# Altium integrated library Motorola Microcontroller 8-Bit.IntLib: 909 symbols (part 2 of 31)
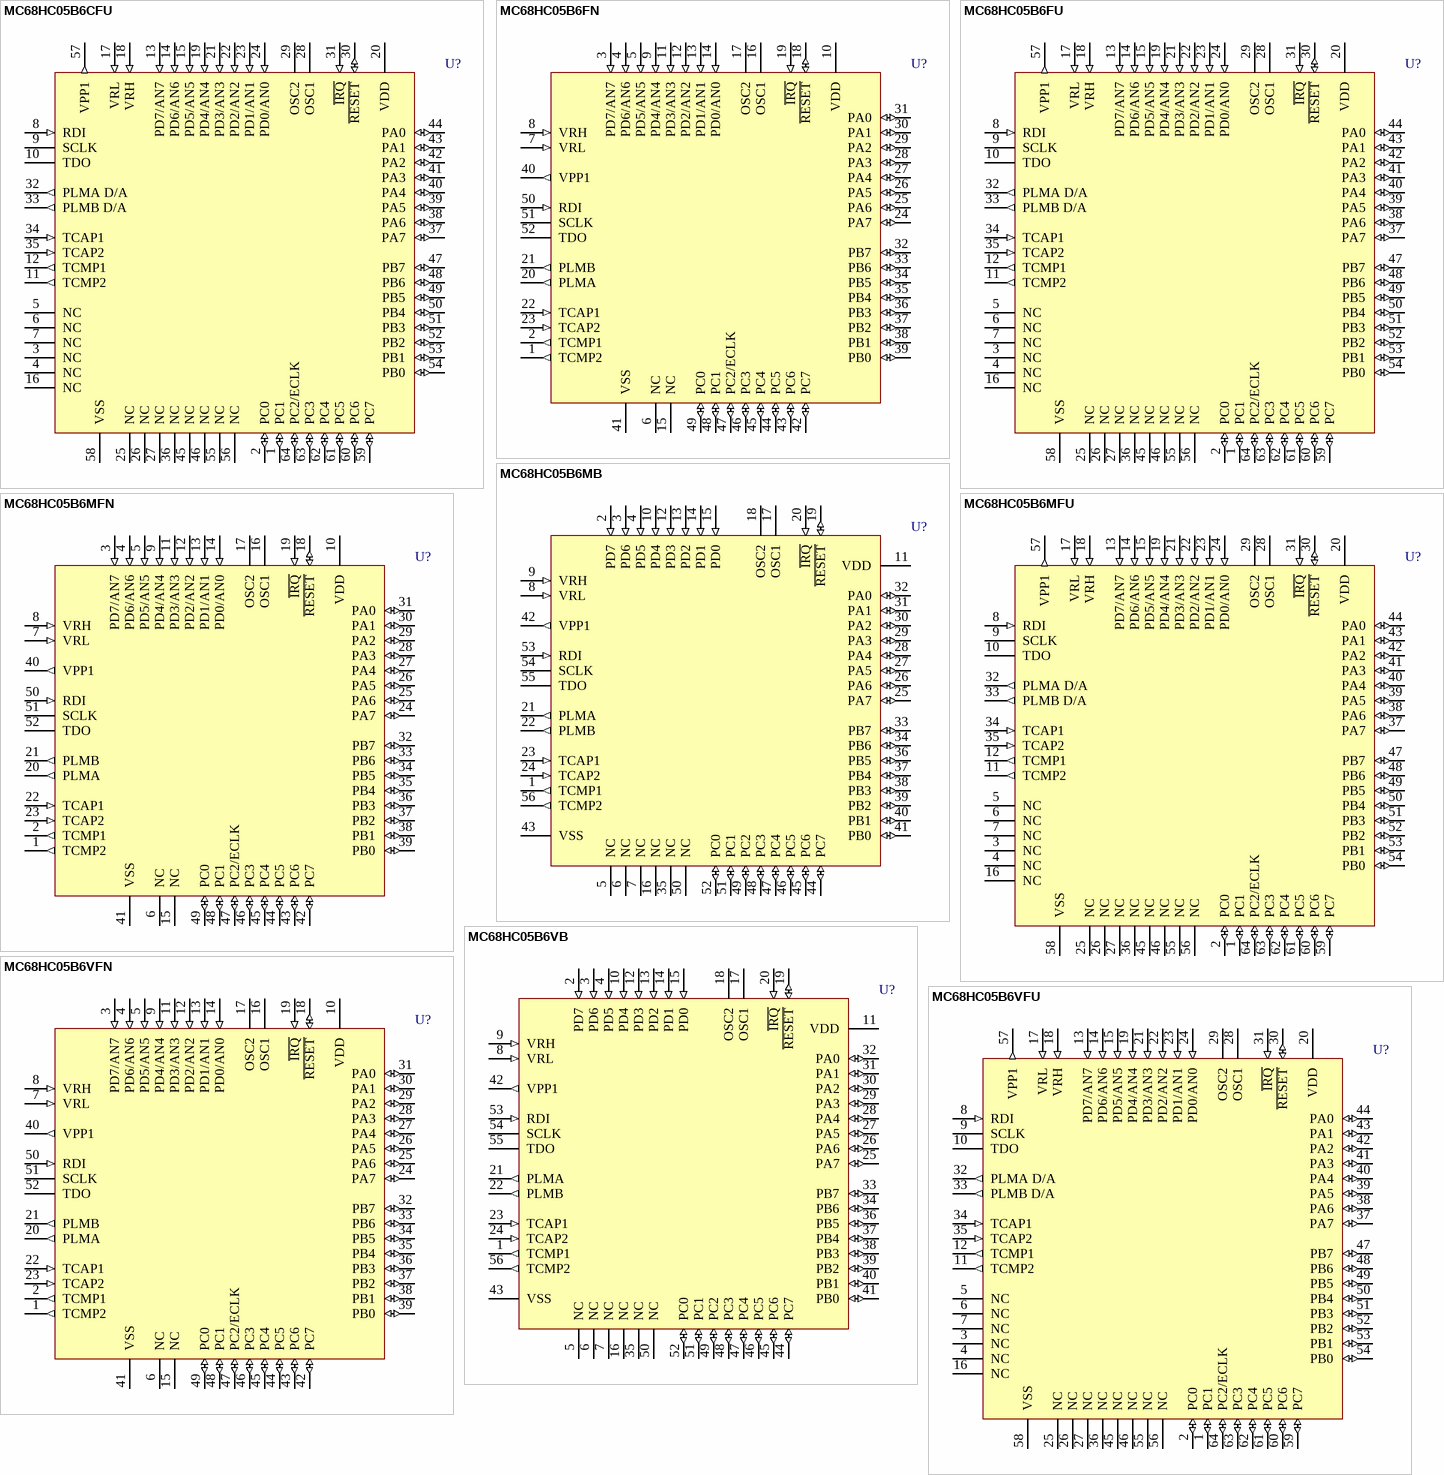
[diagram p114: symbols MC68HC05B6CFU to MC68HC05B6VFU]

## MC68HC05B6FN
designator U?
8-Bit Microcontroller; Published: 17-Jan-2003; LatestRevisionDate: 13-Apr-2006; LatestRevisionNote: IPC-7351 Footprint Added.; DatasheetVersion: Rev 4, 1999; PackageVersion: rev3, 1997; PackageReference: 778-02; Publisher: Altium Limited; PackageDescription: 52-Pin Plastic Leaded Chip Carrier 1.27 mm Pitch; ComponentLink1Description: Manufacturer Link; ComponentLink1URL: http://www.freescale.com/; ComponentLink2Description: Datasheet; ComponentLink2URL: http://www.freescale.com/files/microcontrollers/doc/data_sheet/MC68HC05B6.pdf
footprint 778-02_N (Leaded Chip Carrier, 52-Leads, Body 19x19mm, Pitch 1.27mm, IPC Medium Density)
footprint 778-02_L (Leaded Chip Carrier, 52-Leads, Body 19x19mm, Pitch 1.27mm, IPC High Density)
footprint 778-02_M (Leaded Chip Carrier, 52-Leads, Body 19x19mm, Pitch 1.27mm, IPC Low Density)
3D model MC68HC05-778-02 (52-Pin Plastic Leaded Chip Carrier 1.27 mm Pitch)
pins: 1 TCMP2 (out), 2 TCMP1 (out), 3 PD7/AN7 (in), 4 PD6/AN6 (in), 5 PD5/AN5 (in), 6 NC, 7 VRL (in), 8 VRH (in), 9 PD4/AN4 (in), 10 VDD (power), 11 PD3/AN3 (in), 12 PD2/AN2 (in), 13 PD1/AN1 (in), 14 PD0/AN0 (in), 15 NC, 16 OSC1, 17 OSC2, 18 ~{RESET} (io), 19 ~{IRQ} (in), 20 PLMA (out), 21 PLMB (out), 22 TCAP1 (in), 23 TCAP2 (in), 24 PA7 (io), 25 PA6 (io), 26 PA5 (io), 27 PA4 (io), 28 PA3 (io), 29 PA2 (io), 30 PA1 (io), 31 PA0 (io), 32 PB7 (io), 33 PB6 (io), 34 PB5 (io), 35 PB4 (io), 36 PB3 (io), 37 PB2 (io), 38 PB1 (io), 39 PB0 (io), 40 VPP1 (out), 41 VSS (power), 42 PC7 (io), 43 PC6 (io), 44 PC5 (io), 45 PC4 (io), 46 PC3 (io), 47 PC2/ECLK (io), 48 PC1 (io), 49 PC0 (io), 50 RDI (in), 51 SCLK (hiz), 52 TDO (hiz)

## MC68HC05B6FU
designator U?
8-Bit Microcontroller; Published: 17-Jan-2003; LatestRevisionDate: 13-Apr-2006; LatestRevisionNote: IPC-7351 Footprint Added.; DatasheetVersion: Rev 4, 1999; PackageVersion: rev4, Jul-2002; PackageReference: 840C; Publisher: Altium Limited; PackageDescription: 64-Pin Quad Flat Pack 0.8 mm Pitch; ComponentLink1Description: Manufacturer Link; ComponentLink1URL: http://www.freescale.com/; ComponentLink2Description: Datasheet; ComponentLink2URL: http://www.freescale.com/files/microcontrollers/doc/data_sheet/MC68HC05B6.pdf
footprint 840C_N (QFP, 64-Leads, Body 14x14mm, Pitch 0.8mm, IPC Medium Density)
footprint 840C_L (QFP, 64-Leads, Body 14x14mm, Pitch 0.8mm, IPC High Density)
footprint 840C_M (QFP, 64-Leads, Body 14x14mm, Pitch 0.8mm, IPC Low Density)
3D model MC68HC05-840C (64-Pin Quad Flat Pack 0.8 mm Pitch)
pins: 1 PC1 (io), 2 PC0 (io), 3 NC, 4 NC, 5 NC, 6 NC, 7 NC, 8 RDI (in), 9 SCLK (hiz), 10 TDO (hiz), 11 TCMP2 (out), 12 TCMP1 (out), 13 PD7/AN7 (in), 14 PD6/AN6 (in), 15 PD5/AN5 (in), 16 NC, 17 VRL (in), 18 VRH (in), 19 PD4/AN4 (in), 20 VDD (power), 21 PD3/AN3 (in), 22 PD2/AN2 (in), 23 PD1/AN1 (in), 24 PD0/AN0 (in), 25 NC, 26 NC, 27 NC, 28 OSC1, 29 OSC2, 30 ~{RESET} (io), 31 ~{IRQ} (in), 32 PLMA D/A (out), 33 PLMB D/A (out), 34 TCAP1 (in), 35 TCAP2 (in), 36 NC, 37 PA7 (io), 38 PA6 (io), 39 PA5 (io), 40 PA4 (io), 41 PA3 (io), 42 PA2 (io), 43 PA1 (io), 44 PA0 (io), 45 NC, 46 NC, 47 PB7 (io), 48 PB6 (io), 49 PB5 (io), 50 PB4 (io), 51 PB3 (io), 52 PB2 (io), 53 PB1 (io), 54 PB0 (io), 55 NC, 56 NC, 57 VPP1 (out), 58 VSS (power), 59 PC7 (io), 60 PC6 (io), 61 PC5 (io), 62 PC4 (io), 63 PC3 (io), 64 PC2/ECLK (io)

## MC68HC05B6MB
designator U?
8-Bit Microcontroller; Published: 17-Jan-2003; LatestRevisionDate: 06-Jun-2005; LatestRevisionNote: Stylized 3D Model Added.; DatasheetVersion: Rev 4, 1999; PackageVersion: rev4, 1999; PackageReference: 859-01; Publisher: Altium Limited; PackageDescription: DIP; 56 Leads; Row Spacing 15.24 mm; Pitch 1.778 mm; ComponentLink1Description: Manufacturer Link; ComponentLink1URL: http://www.freescale.com/; ComponentLink2Description: Datasheet; ComponentLink2URL: http://www.freescale.com/files/microcontrollers/doc/data_sheet/MC68HC05B6.pdf
footprint 859-01 (DIP; 56 Leads; Row Spacing 15.24 mm; Pitch 1.778 mm)
3D model 859-01 (DIP; 56 Leads; Row Spacing 15.24 mm; Pitch 1.778 mm)
pins: 1 TCMP1 (out), 2 PD7 (in), 3 PD6 (in), 4 PD5 (in), 5 NC, 6 NC, 7 NC, 8 VRL (in), 9 VRH (in), 10 PD4 (in), 11 VDD (power), 12 PD3 (in), 13 PD2 (in), 14 PD1 (in), 15 PD0 (in), 16 NC, 17 OSC1, 18 OSC2, 19 ~{RESET} (io), 20 ~{IRQ} (in), 21 PLMA (out), 22 PLMB (out), 23 TCAP1 (in), 24 TCAP2 (in), 25 PA7 (io), 26 PA6 (io), 27 PA5 (io), 28 PA4 (io), 29 PA3 (io), 30 PA2 (io), 31 PA1 (io), 32 PA0 (io), 33 PB7 (io), 34 PB6 (io), 35 NC, 36 PB5 (io), 37 PB4 (io), 38 PB3 (io), 39 PB2 (io), 40 PB1 (io), 41 PB0 (io), 42 VPP1 (out), 43 VSS (power), 44 PC7 (io), 45 PC6 (io), 46 PC5 (io), 47 PC4 (io), 48 PC3 (io), 49 PC2 (io), 50 NC, 51 PC1 (io), 52 PC0 (io), 53 RDI (in), 54 SCLK (hiz), 55 TDO (hiz), 56 TCMP2 (out)

## MC68HC05B6MFN
designator U?
8-Bit Microcontroller; Published: 17-Jan-2003; LatestRevisionDate: 13-Apr-2006; LatestRevisionNote: IPC-7351 Footprint Added.; DatasheetVersion: Rev 4, 1999; PackageVersion: rev3, 1997; PackageReference: 778-02; Publisher: Altium Limited; PackageDescription: 52-Pin Plastic Leaded Chip Carrier 1.27 mm Pitch; ComponentLink1Description: Manufacturer Link; ComponentLink1URL: http://www.freescale.com/; ComponentLink2Description: Datasheet; ComponentLink2URL: http://www.freescale.com/files/microcontrollers/doc/data_sheet/MC68HC05B6.pdf
footprint 778-02_N (Leaded Chip Carrier, 52-Leads, Body 19x19mm, Pitch 1.27mm, IPC Medium Density)
footprint 778-02_L (Leaded Chip Carrier, 52-Leads, Body 19x19mm, Pitch 1.27mm, IPC High Density)
footprint 778-02_M (Leaded Chip Carrier, 52-Leads, Body 19x19mm, Pitch 1.27mm, IPC Low Density)
3D model MC68HC05-778-02 (52-Pin Plastic Leaded Chip Carrier 1.27 mm Pitch)
pins: 1 TCMP2 (out), 2 TCMP1 (out), 3 PD7/AN7 (in), 4 PD6/AN6 (in), 5 PD5/AN5 (in), 6 NC, 7 VRL (in), 8 VRH (in), 9 PD4/AN4 (in), 10 VDD (power), 11 PD3/AN3 (in), 12 PD2/AN2 (in), 13 PD1/AN1 (in), 14 PD0/AN0 (in), 15 NC, 16 OSC1, 17 OSC2, 18 ~{RESET} (io), 19 ~{IRQ} (in), 20 PLMA (out), 21 PLMB (out), 22 TCAP1 (in), 23 TCAP2 (in), 24 PA7 (io), 25 PA6 (io), 26 PA5 (io), 27 PA4 (io), 28 PA3 (io), 29 PA2 (io), 30 PA1 (io), 31 PA0 (io), 32 PB7 (io), 33 PB6 (io), 34 PB5 (io), 35 PB4 (io), 36 PB3 (io), 37 PB2 (io), 38 PB1 (io), 39 PB0 (io), 40 VPP1 (out), 41 VSS (power), 42 PC7 (io), 43 PC6 (io), 44 PC5 (io), 45 PC4 (io), 46 PC3 (io), 47 PC2/ECLK (io), 48 PC1 (io), 49 PC0 (io), 50 RDI (in), 51 SCLK (hiz), 52 TDO (hiz)

## MC68HC05B6MFU
designator U?
8-Bit Microcontroller; Published: 17-Jan-2003; LatestRevisionDate: 13-Apr-2006; LatestRevisionNote: IPC-7351 Footprint Added.; DatasheetVersion: Rev 4, 1999; PackageVersion: rev4, Jul-2002; PackageReference: 840C; Publisher: Altium Limited; PackageDescription: 64-Pin Quad Flat Pack 0.8 mm Pitch; ComponentLink1Description: Manufacturer Link; ComponentLink1URL: http://www.freescale.com/; ComponentLink2Description: Datasheet; ComponentLink2URL: http://www.freescale.com/files/microcontrollers/doc/data_sheet/MC68HC05B6.pdf
footprint 840C_N (QFP, 64-Leads, Body 14x14mm, Pitch 0.8mm, IPC Medium Density)
footprint 840C_L (QFP, 64-Leads, Body 14x14mm, Pitch 0.8mm, IPC High Density)
footprint 840C_M (QFP, 64-Leads, Body 14x14mm, Pitch 0.8mm, IPC Low Density)
3D model MC68HC05-840C (64-Pin Quad Flat Pack 0.8 mm Pitch)
pins: 1 PC1 (io), 2 PC0 (io), 3 NC, 4 NC, 5 NC, 6 NC, 7 NC, 8 RDI (in), 9 SCLK (hiz), 10 TDO (hiz), 11 TCMP2 (out), 12 TCMP1 (out), 13 PD7/AN7 (in), 14 PD6/AN6 (in), 15 PD5/AN5 (in), 16 NC, 17 VRL (in), 18 VRH (in), 19 PD4/AN4 (in), 20 VDD (power), 21 PD3/AN3 (in), 22 PD2/AN2 (in), 23 PD1/AN1 (in), 24 PD0/AN0 (in), 25 NC, 26 NC, 27 NC, 28 OSC1, 29 OSC2, 30 ~{RESET} (io), 31 ~{IRQ} (in), 32 PLMA D/A (out), 33 PLMB D/A (out), 34 TCAP1 (in), 35 TCAP2 (in), 36 NC, 37 PA7 (io), 38 PA6 (io), 39 PA5 (io), 40 PA4 (io), 41 PA3 (io), 42 PA2 (io), 43 PA1 (io), 44 PA0 (io), 45 NC, 46 NC, 47 PB7 (io), 48 PB6 (io), 49 PB5 (io), 50 PB4 (io), 51 PB3 (io), 52 PB2 (io), 53 PB1 (io), 54 PB0 (io), 55 NC, 56 NC, 57 VPP1 (out), 58 VSS (power), 59 PC7 (io), 60 PC6 (io), 61 PC5 (io), 62 PC4 (io), 63 PC3 (io), 64 PC2/ECLK (io)

## MC68HC05B6VB
designator U?
8-Bit Microcontroller; Published: 17-Jan-2003; LatestRevisionDate: 06-Jun-2005; LatestRevisionNote: Stylized 3D Model Added.; DatasheetVersion: Rev 4, 1999; PackageVersion: rev4, 1999; PackageReference: 859-01; Publisher: Altium Limited; PackageDescription: DIP; 56 Leads; Row Spacing 15.24 mm; Pitch 1.778 mm; ComponentLink1Description: Manufacturer Link; ComponentLink1URL: http://www.freescale.com/; ComponentLink2Description: Datasheet; ComponentLink2URL: http://www.freescale.com/files/microcontrollers/doc/data_sheet/MC68HC05B6.pdf
footprint 859-01 (DIP; 56 Leads; Row Spacing 15.24 mm; Pitch 1.778 mm)
3D model 859-01 (DIP; 56 Leads; Row Spacing 15.24 mm; Pitch 1.778 mm)
pins: 1 TCMP1 (out), 2 PD7 (in), 3 PD6 (in), 4 PD5 (in), 5 NC, 6 NC, 7 NC, 8 VRL (in), 9 VRH (in), 10 PD4 (in), 11 VDD (power), 12 PD3 (in), 13 PD2 (in), 14 PD1 (in), 15 PD0 (in), 16 NC, 17 OSC1, 18 OSC2, 19 ~{RESET} (io), 20 ~{IRQ} (in), 21 PLMA (out), 22 PLMB (out), 23 TCAP1 (in), 24 TCAP2 (in), 25 PA7 (io), 26 PA6 (io), 27 PA5 (io), 28 PA4 (io), 29 PA3 (io), 30 PA2 (io), 31 PA1 (io), 32 PA0 (io), 33 PB7 (io), 34 PB6 (io), 35 NC, 36 PB5 (io), 37 PB4 (io), 38 PB3 (io), 39 PB2 (io), 40 PB1 (io), 41 PB0 (io), 42 VPP1 (out), 43 VSS (power), 44 PC7 (io), 45 PC6 (io), 46 PC5 (io), 47 PC4 (io), 48 PC3 (io), 49 PC2 (io), 50 NC, 51 PC1 (io), 52 PC0 (io), 53 RDI (in), 54 SCLK (hiz), 55 TDO (hiz), 56 TCMP2 (out)

## MC68HC05B6VFN
designator U?
8-Bit Microcontroller; Published: 17-Jan-2003; LatestRevisionDate: 13-Apr-2006; LatestRevisionNote: IPC-7351 Footprint Added.; DatasheetVersion: Rev 4, 1999; PackageVersion: rev3, 1997; PackageReference: 778-02; Publisher: Altium Limited; PackageDescription: 52-Pin Plastic Leaded Chip Carrier 1.27 mm Pitch; ComponentLink1Description: Manufacturer Link; ComponentLink1URL: http://www.freescale.com/; ComponentLink2Description: Datasheet; ComponentLink2URL: http://www.freescale.com/files/microcontrollers/doc/data_sheet/MC68HC05B6.pdf
footprint 778-02_N (Leaded Chip Carrier, 52-Leads, Body 19x19mm, Pitch 1.27mm, IPC Medium Density)
footprint 778-02_L (Leaded Chip Carrier, 52-Leads, Body 19x19mm, Pitch 1.27mm, IPC High Density)
footprint 778-02_M (Leaded Chip Carrier, 52-Leads, Body 19x19mm, Pitch 1.27mm, IPC Low Density)
3D model MC68HC05-778-02 (52-Pin Plastic Leaded Chip Carrier 1.27 mm Pitch)
pins: 1 TCMP2 (out), 2 TCMP1 (out), 3 PD7/AN7 (in), 4 PD6/AN6 (in), 5 PD5/AN5 (in), 6 NC, 7 VRL (in), 8 VRH (in), 9 PD4/AN4 (in), 10 VDD (power), 11 PD3/AN3 (in), 12 PD2/AN2 (in), 13 PD1/AN1 (in), 14 PD0/AN0 (in), 15 NC, 16 OSC1, 17 OSC2, 18 ~{RESET} (io), 19 ~{IRQ} (in), 20 PLMA (out), 21 PLMB (out), 22 TCAP1 (in), 23 TCAP2 (in), 24 PA7 (io), 25 PA6 (io), 26 PA5 (io), 27 PA4 (io), 28 PA3 (io), 29 PA2 (io), 30 PA1 (io), 31 PA0 (io), 32 PB7 (io), 33 PB6 (io), 34 PB5 (io), 35 PB4 (io), 36 PB3 (io), 37 PB2 (io), 38 PB1 (io), 39 PB0 (io), 40 VPP1 (out), 41 VSS (power), 42 PC7 (io), 43 PC6 (io), 44 PC5 (io), 45 PC4 (io), 46 PC3 (io), 47 PC2/ECLK (io), 48 PC1 (io), 49 PC0 (io), 50 RDI (in), 51 SCLK (hiz), 52 TDO (hiz)

## MC68HC05B6VFU
designator U?
8-Bit Microcontroller; Published: 17-Jan-2003; LatestRevisionDate: 13-Apr-2006; LatestRevisionNote: IPC-7351 Footprint Added.; DatasheetVersion: Rev 4, 1999; PackageVersion: rev4, Jul-2002; PackageReference: 840C; Publisher: Altium Limited; PackageDescription: 64-Pin Quad Flat Pack 0.8 mm Pitch; ComponentLink1Description: Manufacturer Link; ComponentLink1URL: http://www.freescale.com/; ComponentLink2Description: Datasheet; ComponentLink2URL: http://www.freescale.com/files/microcontrollers/doc/data_sheet/MC68HC05B6.pdf
footprint 840C_N (QFP, 64-Leads, Body 14x14mm, Pitch 0.8mm, IPC Medium Density)
footprint 840C_L (QFP, 64-Leads, Body 14x14mm, Pitch 0.8mm, IPC High Density)
footprint 840C_M (QFP, 64-Leads, Body 14x14mm, Pitch 0.8mm, IPC Low Density)
3D model MC68HC05-840C (64-Pin Quad Flat Pack 0.8 mm Pitch)
pins: 1 PC1 (io), 2 PC0 (io), 3 NC, 4 NC, 5 NC, 6 NC, 7 NC, 8 RDI (in), 9 SCLK (hiz), 10 TDO (hiz), 11 TCMP2 (out), 12 TCMP1 (out), 13 PD7/AN7 (in), 14 PD6/AN6 (in), 15 PD5/AN5 (in), 16 NC, 17 VRL (in), 18 VRH (in), 19 PD4/AN4 (in), 20 VDD (power), 21 PD3/AN3 (in), 22 PD2/AN2 (in), 23 PD1/AN1 (in), 24 PD0/AN0 (in), 25 NC, 26 NC, 27 NC, 28 OSC1, 29 OSC2, 30 ~{RESET} (io), 31 ~{IRQ} (in), 32 PLMA D/A (out), 33 PLMB D/A (out), 34 TCAP1 (in), 35 TCAP2 (in), 36 NC, 37 PA7 (io), 38 PA6 (io), 39 PA5 (io), 40 PA4 (io), 41 PA3 (io), 42 PA2 (io), 43 PA1 (io), 44 PA0 (io), 45 NC, 46 NC, 47 PB7 (io), 48 PB6 (io), 49 PB5 (io), 50 PB4 (io), 51 PB3 (io), 52 PB2 (io), 53 PB1 (io), 54 PB0 (io), 55 NC, 56 NC, 57 VPP1 (out), 58 VSS (power), 59 PC7 (io), 60 PC6 (io), 61 PC5 (io), 62 PC4 (io), 63 PC3 (io), 64 PC2/ECLK (io)

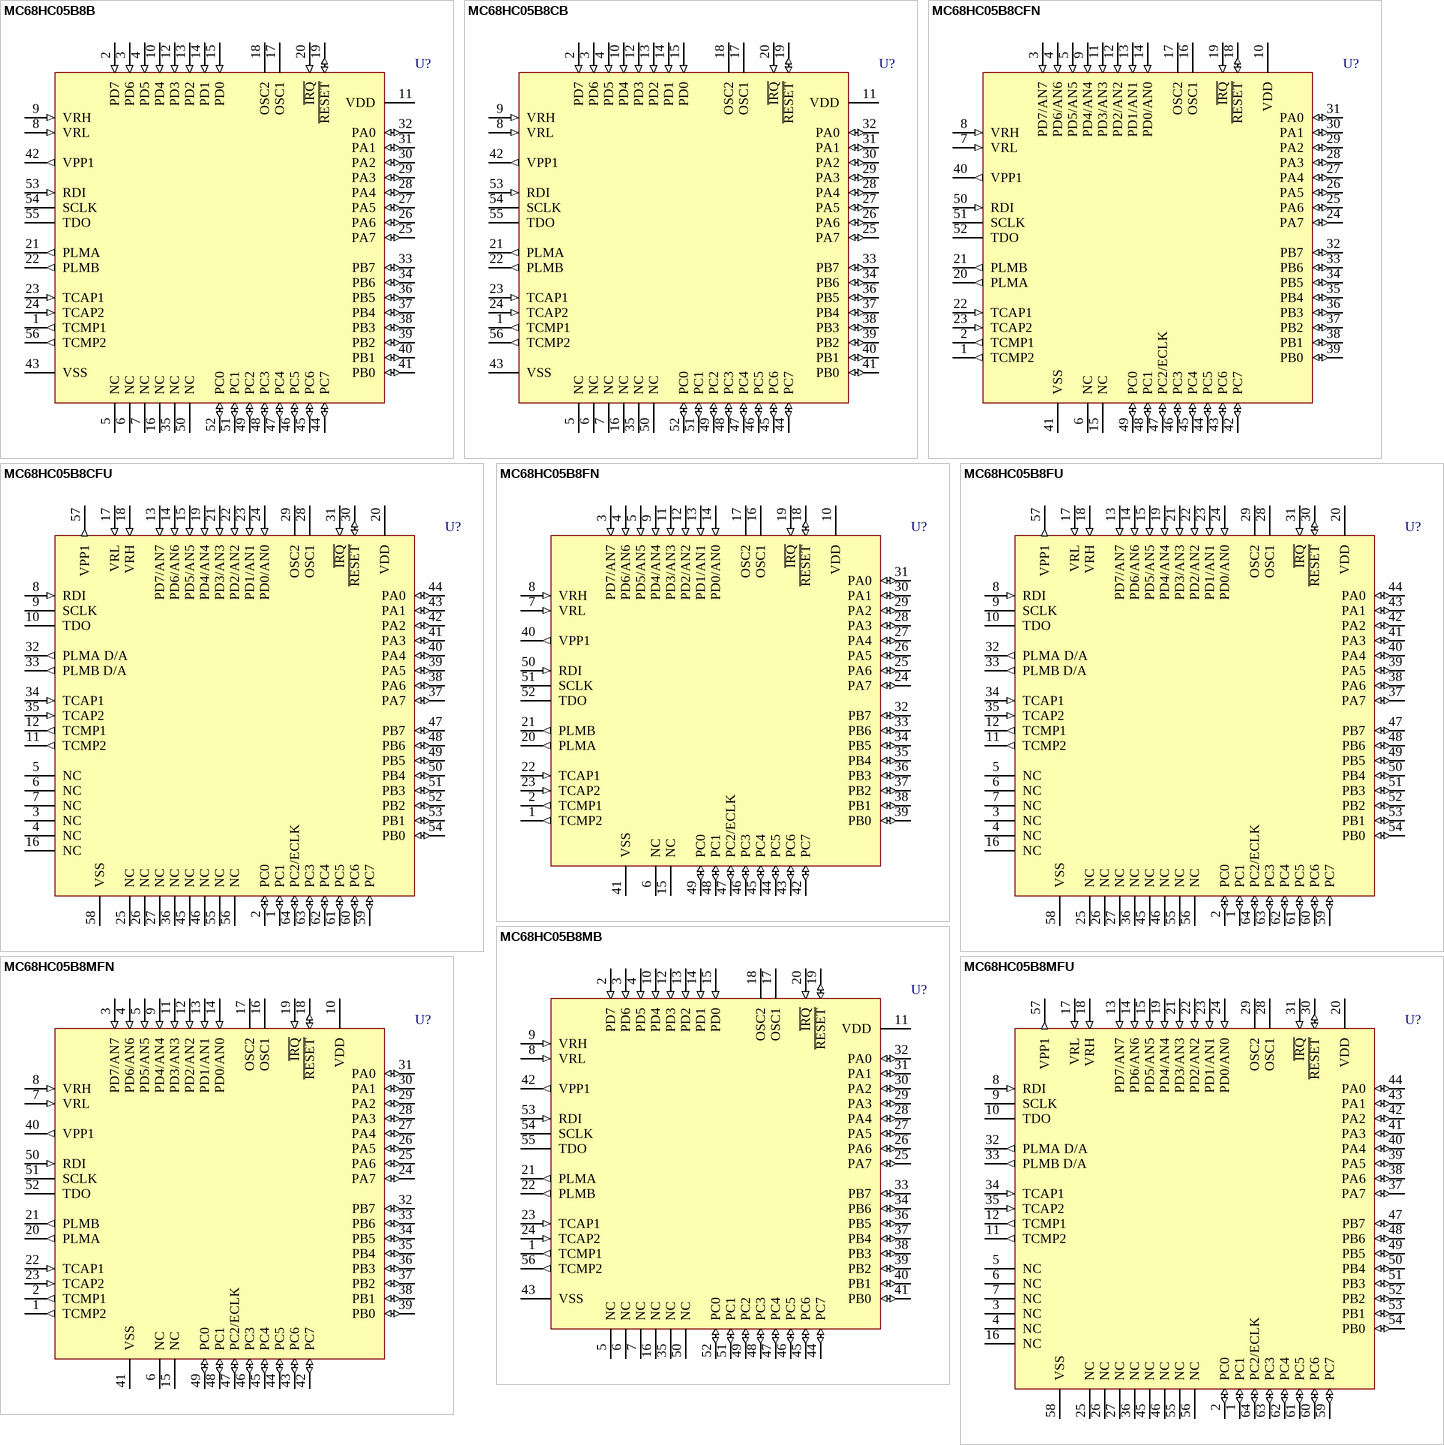
[diagram p4: symbols MC68HC05B8B to MC68HC05B8MFU]

## MC68HC05B8B
designator U?
8-Bit Microcontroller; Published: 17-Jan-2003; LatestRevisionDate: 06-Jun-2005; LatestRevisionNote: Stylized 3D Model Added.; DatasheetVersion: Rev 4, 1999; PackageVersion: rev4, 1999; PackageReference: 859-01; Publisher: Altium Limited; PackageDescription: DIP; 56 Leads; Row Spacing 15.24 mm; Pitch 1.778 mm; ComponentLink1Description: Manufacturer Link; ComponentLink1URL: http://www.freescale.com/; ComponentLink2Description: Datasheet; ComponentLink2URL: http://www.freescale.com/files/microcontrollers/doc/data_sheet/MC68HC05B6.pdf
footprint 859-01 (DIP; 56 Leads; Row Spacing 15.24 mm; Pitch 1.778 mm)
3D model 859-01 (DIP; 56 Leads; Row Spacing 15.24 mm; Pitch 1.778 mm)
pins: 1 TCMP1 (out), 2 PD7 (in), 3 PD6 (in), 4 PD5 (in), 5 NC, 6 NC, 7 NC, 8 VRL (in), 9 VRH (in), 10 PD4 (in), 11 VDD (power), 12 PD3 (in), 13 PD2 (in), 14 PD1 (in), 15 PD0 (in), 16 NC, 17 OSC1, 18 OSC2, 19 ~{RESET} (io), 20 ~{IRQ} (in), 21 PLMA (out), 22 PLMB (out), 23 TCAP1 (in), 24 TCAP2 (in), 25 PA7 (io), 26 PA6 (io), 27 PA5 (io), 28 PA4 (io), 29 PA3 (io), 30 PA2 (io), 31 PA1 (io), 32 PA0 (io), 33 PB7 (io), 34 PB6 (io), 35 NC, 36 PB5 (io), 37 PB4 (io), 38 PB3 (io), 39 PB2 (io), 40 PB1 (io), 41 PB0 (io), 42 VPP1 (out), 43 VSS (power), 44 PC7 (io), 45 PC6 (io), 46 PC5 (io), 47 PC4 (io), 48 PC3 (io), 49 PC2 (io), 50 NC, 51 PC1 (io), 52 PC0 (io), 53 RDI (in), 54 SCLK (hiz), 55 TDO (hiz), 56 TCMP2 (out)

## MC68HC05B8CB
designator U?
8-Bit Microcontroller; Published: 17-Jan-2003; LatestRevisionDate: 06-Jun-2005; LatestRevisionNote: Stylized 3D Model Added.; DatasheetVersion: Rev 4, 1999; PackageVersion: rev4, 1999; PackageReference: 859-01; Publisher: Altium Limited; PackageDescription: DIP; 56 Leads; Row Spacing 15.24 mm; Pitch 1.778 mm; ComponentLink1Description: Manufacturer Link; ComponentLink1URL: http://www.freescale.com/; ComponentLink2Description: Datasheet; ComponentLink2URL: http://www.freescale.com/files/microcontrollers/doc/data_sheet/MC68HC05B6.pdf
footprint 859-01 (DIP; 56 Leads; Row Spacing 15.24 mm; Pitch 1.778 mm)
3D model 859-01 (DIP; 56 Leads; Row Spacing 15.24 mm; Pitch 1.778 mm)
pins: 1 TCMP1 (out), 2 PD7 (in), 3 PD6 (in), 4 PD5 (in), 5 NC, 6 NC, 7 NC, 8 VRL (in), 9 VRH (in), 10 PD4 (in), 11 VDD (power), 12 PD3 (in), 13 PD2 (in), 14 PD1 (in), 15 PD0 (in), 16 NC, 17 OSC1, 18 OSC2, 19 ~{RESET} (io), 20 ~{IRQ} (in), 21 PLMA (out), 22 PLMB (out), 23 TCAP1 (in), 24 TCAP2 (in), 25 PA7 (io), 26 PA6 (io), 27 PA5 (io), 28 PA4 (io), 29 PA3 (io), 30 PA2 (io), 31 PA1 (io), 32 PA0 (io), 33 PB7 (io), 34 PB6 (io), 35 NC, 36 PB5 (io), 37 PB4 (io), 38 PB3 (io), 39 PB2 (io), 40 PB1 (io), 41 PB0 (io), 42 VPP1 (out), 43 VSS (power), 44 PC7 (io), 45 PC6 (io), 46 PC5 (io), 47 PC4 (io), 48 PC3 (io), 49 PC2 (io), 50 NC, 51 PC1 (io), 52 PC0 (io), 53 RDI (in), 54 SCLK (hiz), 55 TDO (hiz), 56 TCMP2 (out)

## MC68HC05B8CFN
designator U?
8-Bit Microcontroller; Published: 17-Jan-2003; LatestRevisionDate: 13-Apr-2006; LatestRevisionNote: IPC-7351 Footprint Added.; DatasheetVersion: Rev 4, 1999; PackageVersion: rev3, 1997; PackageReference: 778-02; Publisher: Altium Limited; PackageDescription: 52-Pin Plastic Leaded Chip Carrier 1.27 mm Pitch; ComponentLink1Description: Manufacturer Link; ComponentLink1URL: http://www.freescale.com/; ComponentLink2Description: Datasheet; ComponentLink2URL: http://www.freescale.com/files/microcontrollers/doc/data_sheet/MC68HC05B6.pdf
footprint 778-02_N (Leaded Chip Carrier, 52-Leads, Body 19x19mm, Pitch 1.27mm, IPC Medium Density)
footprint 778-02_L (Leaded Chip Carrier, 52-Leads, Body 19x19mm, Pitch 1.27mm, IPC High Density)
footprint 778-02_M (Leaded Chip Carrier, 52-Leads, Body 19x19mm, Pitch 1.27mm, IPC Low Density)
3D model MC68HC05-778-02 (52-Pin Plastic Leaded Chip Carrier 1.27 mm Pitch)
pins: 1 TCMP2 (out), 2 TCMP1 (out), 3 PD7/AN7 (in), 4 PD6/AN6 (in), 5 PD5/AN5 (in), 6 NC, 7 VRL (in), 8 VRH (in), 9 PD4/AN4 (in), 10 VDD (power), 11 PD3/AN3 (in), 12 PD2/AN2 (in), 13 PD1/AN1 (in), 14 PD0/AN0 (in), 15 NC, 16 OSC1, 17 OSC2, 18 ~{RESET} (io), 19 ~{IRQ} (in), 20 PLMA (out), 21 PLMB (out), 22 TCAP1 (in), 23 TCAP2 (in), 24 PA7 (io), 25 PA6 (io), 26 PA5 (io), 27 PA4 (io), 28 PA3 (io), 29 PA2 (io), 30 PA1 (io), 31 PA0 (io), 32 PB7 (io), 33 PB6 (io), 34 PB5 (io), 35 PB4 (io), 36 PB3 (io), 37 PB2 (io), 38 PB1 (io), 39 PB0 (io), 40 VPP1 (out), 41 VSS (power), 42 PC7 (io), 43 PC6 (io), 44 PC5 (io), 45 PC4 (io), 46 PC3 (io), 47 PC2/ECLK (io), 48 PC1 (io), 49 PC0 (io), 50 RDI (in), 51 SCLK (hiz), 52 TDO (hiz)

## MC68HC05B8CFU
designator U?
8-Bit Microcontroller; Published: 17-Jan-2003; LatestRevisionDate: 13-Apr-2006; LatestRevisionNote: IPC-7351 Footprint Added.; DatasheetVersion: Rev 4, 1999; PackageVersion: rev4, Jul-2002; PackageReference: 840C; Publisher: Altium Limited; PackageDescription: 64-Pin Quad Flat Pack 0.8 mm Pitch; ComponentLink1Description: Manufacturer Link; ComponentLink1URL: http://www.freescale.com/; ComponentLink2Description: Datasheet; ComponentLink2URL: http://www.freescale.com/files/microcontrollers/doc/data_sheet/MC68HC05B6.pdf
footprint 840C_N (QFP, 64-Leads, Body 14x14mm, Pitch 0.8mm, IPC Medium Density)
footprint 840C_L (QFP, 64-Leads, Body 14x14mm, Pitch 0.8mm, IPC High Density)
footprint 840C_M (QFP, 64-Leads, Body 14x14mm, Pitch 0.8mm, IPC Low Density)
3D model MC68HC05-840C (64-Pin Quad Flat Pack 0.8 mm Pitch)
pins: 1 PC1 (io), 2 PC0 (io), 3 NC, 4 NC, 5 NC, 6 NC, 7 NC, 8 RDI (in), 9 SCLK (hiz), 10 TDO (hiz), 11 TCMP2 (out), 12 TCMP1 (out), 13 PD7/AN7 (in), 14 PD6/AN6 (in), 15 PD5/AN5 (in), 16 NC, 17 VRL (in), 18 VRH (in), 19 PD4/AN4 (in), 20 VDD (power), 21 PD3/AN3 (in), 22 PD2/AN2 (in), 23 PD1/AN1 (in), 24 PD0/AN0 (in), 25 NC, 26 NC, 27 NC, 28 OSC1, 29 OSC2, 30 ~{RESET} (io), 31 ~{IRQ} (in), 32 PLMA D/A (out), 33 PLMB D/A (out), 34 TCAP1 (in), 35 TCAP2 (in), 36 NC, 37 PA7 (io), 38 PA6 (io), 39 PA5 (io), 40 PA4 (io), 41 PA3 (io), 42 PA2 (io), 43 PA1 (io), 44 PA0 (io), 45 NC, 46 NC, 47 PB7 (io), 48 PB6 (io), 49 PB5 (io), 50 PB4 (io), 51 PB3 (io), 52 PB2 (io), 53 PB1 (io), 54 PB0 (io), 55 NC, 56 NC, 57 VPP1 (out), 58 VSS (power), 59 PC7 (io), 60 PC6 (io), 61 PC5 (io), 62 PC4 (io), 63 PC3 (io), 64 PC2/ECLK (io)

## MC68HC05B8FN
designator U?
8-Bit Microcontroller; Published: 17-Jan-2003; LatestRevisionDate: 13-Apr-2006; LatestRevisionNote: IPC-7351 Footprint Added.; DatasheetVersion: Rev 4, 1999; PackageVersion: rev3, 1997; PackageReference: 778-02; Publisher: Altium Limited; PackageDescription: 52-Pin Plastic Leaded Chip Carrier 1.27 mm Pitch; ComponentLink1Description: Manufacturer Link; ComponentLink1URL: http://www.freescale.com/; ComponentLink2Description: Datasheet; ComponentLink2URL: http://www.freescale.com/files/microcontrollers/doc/data_sheet/MC68HC05B6.pdf
footprint 778-02_N (Leaded Chip Carrier, 52-Leads, Body 19x19mm, Pitch 1.27mm, IPC Medium Density)
footprint 778-02_L (Leaded Chip Carrier, 52-Leads, Body 19x19mm, Pitch 1.27mm, IPC High Density)
footprint 778-02_M (Leaded Chip Carrier, 52-Leads, Body 19x19mm, Pitch 1.27mm, IPC Low Density)
3D model MC68HC05-778-02 (52-Pin Plastic Leaded Chip Carrier 1.27 mm Pitch)
pins: 1 TCMP2 (out), 2 TCMP1 (out), 3 PD7/AN7 (in), 4 PD6/AN6 (in), 5 PD5/AN5 (in), 6 NC, 7 VRL (in), 8 VRH (in), 9 PD4/AN4 (in), 10 VDD (power), 11 PD3/AN3 (in), 12 PD2/AN2 (in), 13 PD1/AN1 (in), 14 PD0/AN0 (in), 15 NC, 16 OSC1, 17 OSC2, 18 ~{RESET} (io), 19 ~{IRQ} (in), 20 PLMA (out), 21 PLMB (out), 22 TCAP1 (in), 23 TCAP2 (in), 24 PA7 (io), 25 PA6 (io), 26 PA5 (io), 27 PA4 (io), 28 PA3 (io), 29 PA2 (io), 30 PA1 (io), 31 PA0 (io), 32 PB7 (io), 33 PB6 (io), 34 PB5 (io), 35 PB4 (io), 36 PB3 (io), 37 PB2 (io), 38 PB1 (io), 39 PB0 (io), 40 VPP1 (out), 41 VSS (power), 42 PC7 (io), 43 PC6 (io), 44 PC5 (io), 45 PC4 (io), 46 PC3 (io), 47 PC2/ECLK (io), 48 PC1 (io), 49 PC0 (io), 50 RDI (in), 51 SCLK (hiz), 52 TDO (hiz)

## MC68HC05B8FU
designator U?
8-Bit Microcontroller; Published: 17-Jan-2003; LatestRevisionDate: 13-Apr-2006; LatestRevisionNote: IPC-7351 Footprint Added.; DatasheetVersion: Rev 4, 1999; PackageVersion: rev4, Jul-2002; PackageReference: 840C; Publisher: Altium Limited; PackageDescription: 64-Pin Quad Flat Pack 0.8 mm Pitch; ComponentLink1Description: Manufacturer Link; ComponentLink1URL: http://www.freescale.com/; ComponentLink2Description: Datasheet; ComponentLink2URL: http://www.freescale.com/files/microcontrollers/doc/data_sheet/MC68HC05B6.pdf
footprint 840C_N (QFP, 64-Leads, Body 14x14mm, Pitch 0.8mm, IPC Medium Density)
footprint 840C_L (QFP, 64-Leads, Body 14x14mm, Pitch 0.8mm, IPC High Density)
footprint 840C_M (QFP, 64-Leads, Body 14x14mm, Pitch 0.8mm, IPC Low Density)
3D model MC68HC05-840C (64-Pin Quad Flat Pack 0.8 mm Pitch)
pins: 1 PC1 (io), 2 PC0 (io), 3 NC, 4 NC, 5 NC, 6 NC, 7 NC, 8 RDI (in), 9 SCLK (hiz), 10 TDO (hiz), 11 TCMP2 (out), 12 TCMP1 (out), 13 PD7/AN7 (in), 14 PD6/AN6 (in), 15 PD5/AN5 (in), 16 NC, 17 VRL (in), 18 VRH (in), 19 PD4/AN4 (in), 20 VDD (power), 21 PD3/AN3 (in), 22 PD2/AN2 (in), 23 PD1/AN1 (in), 24 PD0/AN0 (in), 25 NC, 26 NC, 27 NC, 28 OSC1, 29 OSC2, 30 ~{RESET} (io), 31 ~{IRQ} (in), 32 PLMA D/A (out), 33 PLMB D/A (out), 34 TCAP1 (in), 35 TCAP2 (in), 36 NC, 37 PA7 (io), 38 PA6 (io), 39 PA5 (io), 40 PA4 (io), 41 PA3 (io), 42 PA2 (io), 43 PA1 (io), 44 PA0 (io), 45 NC, 46 NC, 47 PB7 (io), 48 PB6 (io), 49 PB5 (io), 50 PB4 (io), 51 PB3 (io), 52 PB2 (io), 53 PB1 (io), 54 PB0 (io), 55 NC, 56 NC, 57 VPP1 (out), 58 VSS (power), 59 PC7 (io), 60 PC6 (io), 61 PC5 (io), 62 PC4 (io), 63 PC3 (io), 64 PC2/ECLK (io)

## MC68HC05B8MB
designator U?
8-Bit Microcontroller; Published: 17-Jan-2003; LatestRevisionDate: 06-Jun-2005; LatestRevisionNote: Stylized 3D Model Added.; DatasheetVersion: Rev 4, 1999; PackageVersion: rev4, 1999; PackageReference: 859-01; Publisher: Altium Limited; PackageDescription: DIP; 56 Leads; Row Spacing 15.24 mm; Pitch 1.778 mm; ComponentLink1Description: Manufacturer Link; ComponentLink1URL: http://www.freescale.com/; ComponentLink2Description: Datasheet; ComponentLink2URL: http://www.freescale.com/files/microcontrollers/doc/data_sheet/MC68HC05B6.pdf
footprint 859-01 (DIP; 56 Leads; Row Spacing 15.24 mm; Pitch 1.778 mm)
3D model 859-01 (DIP; 56 Leads; Row Spacing 15.24 mm; Pitch 1.778 mm)
pins: 1 TCMP1 (out), 2 PD7 (in), 3 PD6 (in), 4 PD5 (in), 5 NC, 6 NC, 7 NC, 8 VRL (in), 9 VRH (in), 10 PD4 (in), 11 VDD (power), 12 PD3 (in), 13 PD2 (in), 14 PD1 (in), 15 PD0 (in), 16 NC, 17 OSC1, 18 OSC2, 19 ~{RESET} (io), 20 ~{IRQ} (in), 21 PLMA (out), 22 PLMB (out), 23 TCAP1 (in), 24 TCAP2 (in), 25 PA7 (io), 26 PA6 (io), 27 PA5 (io), 28 PA4 (io), 29 PA3 (io), 30 PA2 (io), 31 PA1 (io), 32 PA0 (io), 33 PB7 (io), 34 PB6 (io), 35 NC, 36 PB5 (io), 37 PB4 (io), 38 PB3 (io), 39 PB2 (io), 40 PB1 (io), 41 PB0 (io), 42 VPP1 (out), 43 VSS (power), 44 PC7 (io), 45 PC6 (io), 46 PC5 (io), 47 PC4 (io), 48 PC3 (io), 49 PC2 (io), 50 NC, 51 PC1 (io), 52 PC0 (io), 53 RDI (in), 54 SCLK (hiz), 55 TDO (hiz), 56 TCMP2 (out)

## MC68HC05B8MFN
designator U?
8-Bit Microcontroller; Published: 17-Jan-2003; LatestRevisionDate: 13-Apr-2006; LatestRevisionNote: IPC-7351 Footprint Added.; DatasheetVersion: Rev 4, 1999; PackageVersion: rev3, 1997; PackageReference: 778-02; Publisher: Altium Limited; PackageDescription: 52-Pin Plastic Leaded Chip Carrier 1.27 mm Pitch; ComponentLink1Description: Manufacturer Link; ComponentLink1URL: http://www.freescale.com/; ComponentLink2Description: Datasheet; ComponentLink2URL: http://www.freescale.com/files/microcontrollers/doc/data_sheet/MC68HC05B6.pdf
footprint 778-02_N (Leaded Chip Carrier, 52-Leads, Body 19x19mm, Pitch 1.27mm, IPC Medium Density)
footprint 778-02_L (Leaded Chip Carrier, 52-Leads, Body 19x19mm, Pitch 1.27mm, IPC High Density)
footprint 778-02_M (Leaded Chip Carrier, 52-Leads, Body 19x19mm, Pitch 1.27mm, IPC Low Density)
3D model MC68HC05-778-02 (52-Pin Plastic Leaded Chip Carrier 1.27 mm Pitch)
pins: 1 TCMP2 (out), 2 TCMP1 (out), 3 PD7/AN7 (in), 4 PD6/AN6 (in), 5 PD5/AN5 (in), 6 NC, 7 VRL (in), 8 VRH (in), 9 PD4/AN4 (in), 10 VDD (power), 11 PD3/AN3 (in), 12 PD2/AN2 (in), 13 PD1/AN1 (in), 14 PD0/AN0 (in), 15 NC, 16 OSC1, 17 OSC2, 18 ~{RESET} (io), 19 ~{IRQ} (in), 20 PLMA (out), 21 PLMB (out), 22 TCAP1 (in), 23 TCAP2 (in), 24 PA7 (io), 25 PA6 (io), 26 PA5 (io), 27 PA4 (io), 28 PA3 (io), 29 PA2 (io), 30 PA1 (io), 31 PA0 (io), 32 PB7 (io), 33 PB6 (io), 34 PB5 (io), 35 PB4 (io), 36 PB3 (io), 37 PB2 (io), 38 PB1 (io), 39 PB0 (io), 40 VPP1 (out), 41 VSS (power), 42 PC7 (io), 43 PC6 (io), 44 PC5 (io), 45 PC4 (io), 46 PC3 (io), 47 PC2/ECLK (io), 48 PC1 (io), 49 PC0 (io), 50 RDI (in), 51 SCLK (hiz), 52 TDO (hiz)

## MC68HC05B8MFU
designator U?
8-Bit Microcontroller; Published: 17-Jan-2003; LatestRevisionDate: 13-Apr-2006; LatestRevisionNote: IPC-7351 Footprint Added.; DatasheetVersion: Rev 4, 1999; PackageVersion: rev4, Jul-2002; PackageReference: 840C; Publisher: Altium Limited; PackageDescription: 64-Pin Quad Flat Pack 0.8 mm Pitch; ComponentLink1Description: Manufacturer Link; ComponentLink1URL: http://www.freescale.com/; ComponentLink2Description: Datasheet; ComponentLink2URL: http://www.freescale.com/files/microcontrollers/doc/data_sheet/MC68HC05B6.pdf
footprint 840C_N (QFP, 64-Leads, Body 14x14mm, Pitch 0.8mm, IPC Medium Density)
footprint 840C_L (QFP, 64-Leads, Body 14x14mm, Pitch 0.8mm, IPC High Density)
footprint 840C_M (QFP, 64-Leads, Body 14x14mm, Pitch 0.8mm, IPC Low Density)
3D model MC68HC05-840C (64-Pin Quad Flat Pack 0.8 mm Pitch)
pins: 1 PC1 (io), 2 PC0 (io), 3 NC, 4 NC, 5 NC, 6 NC, 7 NC, 8 RDI (in), 9 SCLK (hiz), 10 TDO (hiz), 11 TCMP2 (out), 12 TCMP1 (out), 13 PD7/AN7 (in), 14 PD6/AN6 (in), 15 PD5/AN5 (in), 16 NC, 17 VRL (in), 18 VRH (in), 19 PD4/AN4 (in), 20 VDD (power), 21 PD3/AN3 (in), 22 PD2/AN2 (in), 23 PD1/AN1 (in), 24 PD0/AN0 (in), 25 NC, 26 NC, 27 NC, 28 OSC1, 29 OSC2, 30 ~{RESET} (io), 31 ~{IRQ} (in), 32 PLMA D/A (out), 33 PLMB D/A (out), 34 TCAP1 (in), 35 TCAP2 (in), 36 NC, 37 PA7 (io), 38 PA6 (io), 39 PA5 (io), 40 PA4 (io), 41 PA3 (io), 42 PA2 (io), 43 PA1 (io), 44 PA0 (io), 45 NC, 46 NC, 47 PB7 (io), 48 PB6 (io), 49 PB5 (io), 50 PB4 (io), 51 PB3 (io), 52 PB2 (io), 53 PB1 (io), 54 PB0 (io), 55 NC, 56 NC, 57 VPP1 (out), 58 VSS (power), 59 PC7 (io), 60 PC6 (io), 61 PC5 (io), 62 PC4 (io), 63 PC3 (io), 64 PC2/ECLK (io)

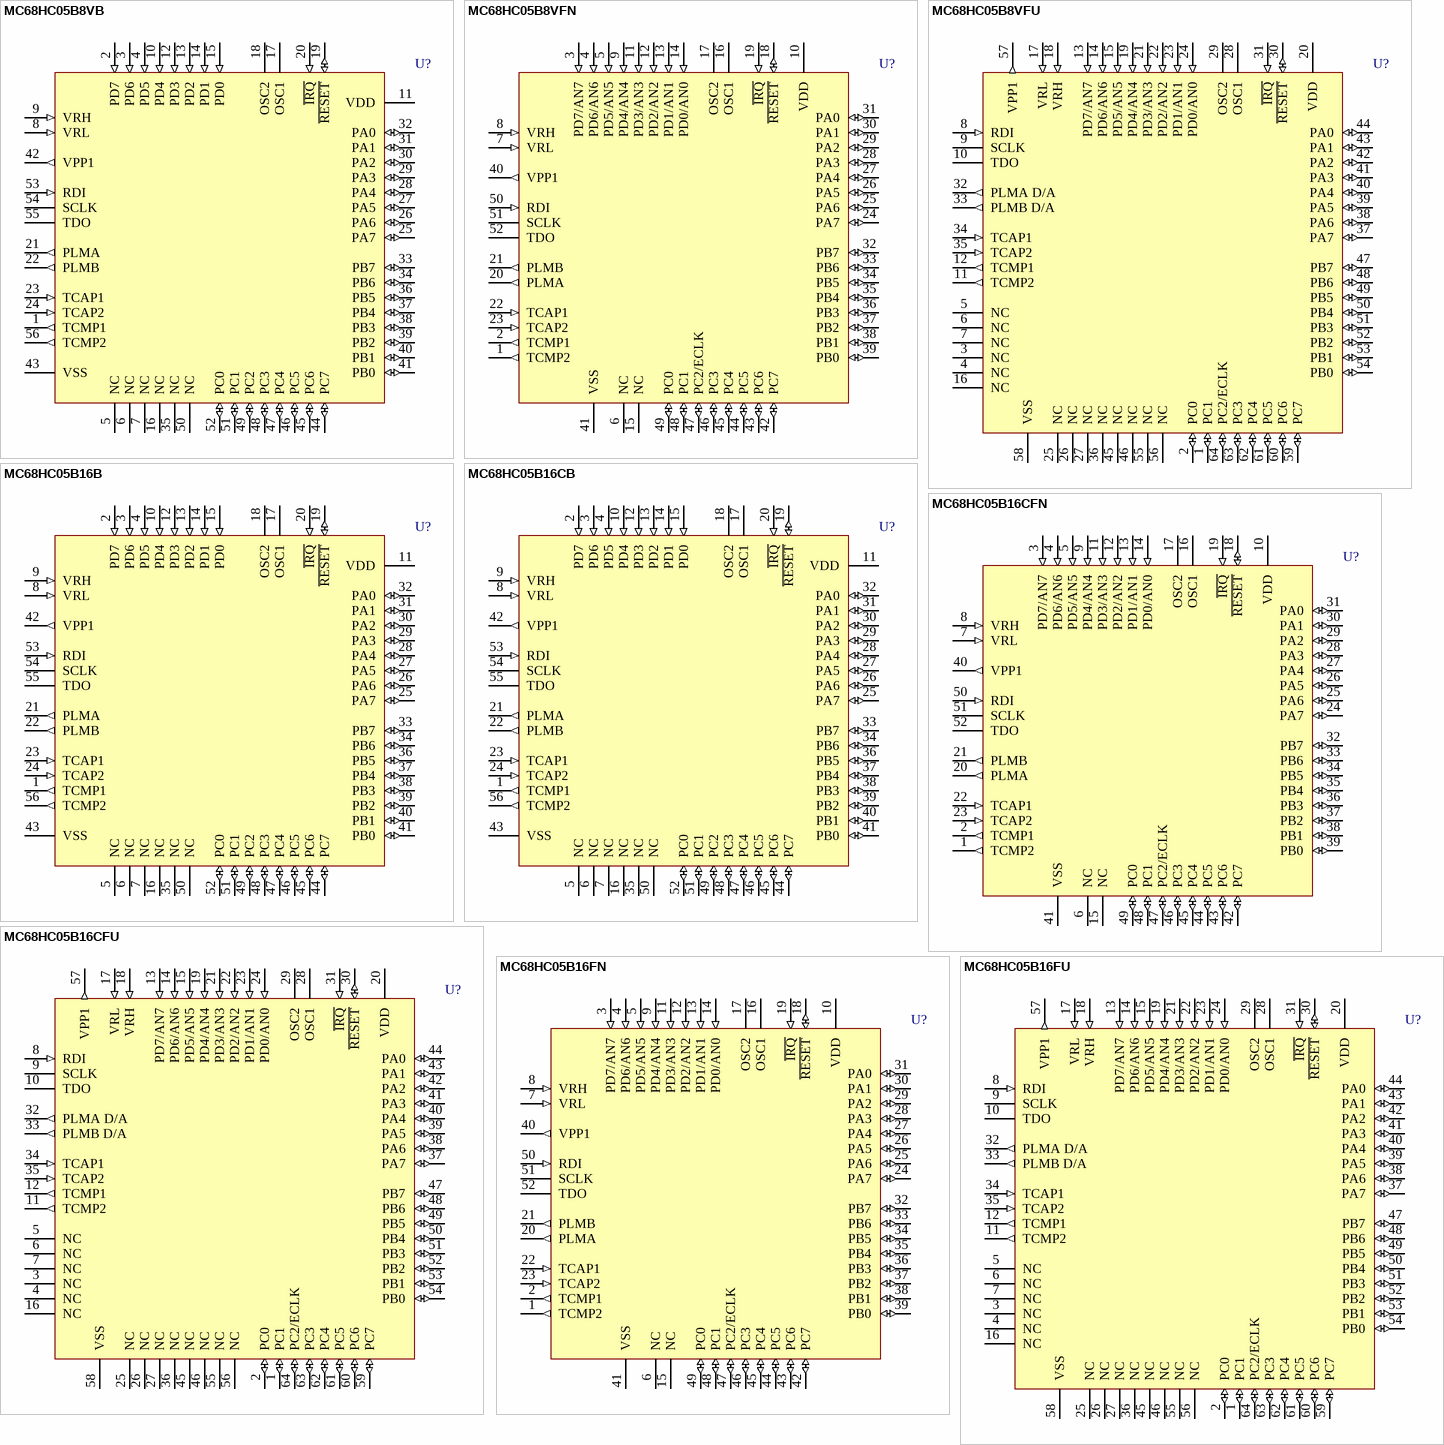
[diagram p5: symbols MC68HC05B8VB to MC68HC05B16FU]

## MC68HC05B8VB
designator U?
8-Bit Microcontroller; Published: 17-Jan-2003; LatestRevisionDate: 06-Jun-2005; LatestRevisionNote: Stylized 3D Model Added.; DatasheetVersion: Rev 4, 1999; PackageVersion: rev4, 1999; PackageReference: 859-01; Publisher: Altium Limited; PackageDescription: DIP; 56 Leads; Row Spacing 15.24 mm; Pitch 1.778 mm; ComponentLink1Description: Manufacturer Link; ComponentLink1URL: http://www.freescale.com/; ComponentLink2Description: Datasheet; ComponentLink2URL: http://www.freescale.com/files/microcontrollers/doc/data_sheet/MC68HC05B6.pdf
footprint 859-01 (DIP; 56 Leads; Row Spacing 15.24 mm; Pitch 1.778 mm)
3D model 859-01 (DIP; 56 Leads; Row Spacing 15.24 mm; Pitch 1.778 mm)
pins: 1 TCMP1 (out), 2 PD7 (in), 3 PD6 (in), 4 PD5 (in), 5 NC, 6 NC, 7 NC, 8 VRL (in), 9 VRH (in), 10 PD4 (in), 11 VDD (power), 12 PD3 (in), 13 PD2 (in), 14 PD1 (in), 15 PD0 (in), 16 NC, 17 OSC1, 18 OSC2, 19 ~{RESET} (io), 20 ~{IRQ} (in), 21 PLMA (out), 22 PLMB (out), 23 TCAP1 (in), 24 TCAP2 (in), 25 PA7 (io), 26 PA6 (io), 27 PA5 (io), 28 PA4 (io), 29 PA3 (io), 30 PA2 (io), 31 PA1 (io), 32 PA0 (io), 33 PB7 (io), 34 PB6 (io), 35 NC, 36 PB5 (io), 37 PB4 (io), 38 PB3 (io), 39 PB2 (io), 40 PB1 (io), 41 PB0 (io), 42 VPP1 (out), 43 VSS (power), 44 PC7 (io), 45 PC6 (io), 46 PC5 (io), 47 PC4 (io), 48 PC3 (io), 49 PC2 (io), 50 NC, 51 PC1 (io), 52 PC0 (io), 53 RDI (in), 54 SCLK (hiz), 55 TDO (hiz), 56 TCMP2 (out)

## MC68HC05B8VFN
designator U?
8-Bit Microcontroller; Published: 17-Jan-2003; LatestRevisionDate: 13-Apr-2006; LatestRevisionNote: IPC-7351 Footprint Added.; DatasheetVersion: Rev 4, 1999; PackageVersion: rev3, 1997; PackageReference: 778-02; Publisher: Altium Limited; PackageDescription: 52-Pin Plastic Leaded Chip Carrier 1.27 mm Pitch; ComponentLink1Description: Manufacturer Link; ComponentLink1URL: http://www.freescale.com/; ComponentLink2Description: Datasheet; ComponentLink2URL: http://www.freescale.com/files/microcontrollers/doc/data_sheet/MC68HC05B6.pdf
footprint 778-02_N (Leaded Chip Carrier, 52-Leads, Body 19x19mm, Pitch 1.27mm, IPC Medium Density)
footprint 778-02_L (Leaded Chip Carrier, 52-Leads, Body 19x19mm, Pitch 1.27mm, IPC High Density)
footprint 778-02_M (Leaded Chip Carrier, 52-Leads, Body 19x19mm, Pitch 1.27mm, IPC Low Density)
3D model MC68HC05-778-02 (52-Pin Plastic Leaded Chip Carrier 1.27 mm Pitch)
pins: 1 TCMP2 (out), 2 TCMP1 (out), 3 PD7/AN7 (in), 4 PD6/AN6 (in), 5 PD5/AN5 (in), 6 NC, 7 VRL (in), 8 VRH (in), 9 PD4/AN4 (in), 10 VDD (power), 11 PD3/AN3 (in), 12 PD2/AN2 (in), 13 PD1/AN1 (in), 14 PD0/AN0 (in), 15 NC, 16 OSC1, 17 OSC2, 18 ~{RESET} (io), 19 ~{IRQ} (in), 20 PLMA (out), 21 PLMB (out), 22 TCAP1 (in), 23 TCAP2 (in), 24 PA7 (io), 25 PA6 (io), 26 PA5 (io), 27 PA4 (io), 28 PA3 (io), 29 PA2 (io), 30 PA1 (io), 31 PA0 (io), 32 PB7 (io), 33 PB6 (io), 34 PB5 (io), 35 PB4 (io), 36 PB3 (io), 37 PB2 (io), 38 PB1 (io), 39 PB0 (io), 40 VPP1 (out), 41 VSS (power), 42 PC7 (io), 43 PC6 (io), 44 PC5 (io), 45 PC4 (io), 46 PC3 (io), 47 PC2/ECLK (io), 48 PC1 (io), 49 PC0 (io), 50 RDI (in), 51 SCLK (hiz), 52 TDO (hiz)

## MC68HC05B8VFU
designator U?
8-Bit Microcontroller; Published: 17-Jan-2003; LatestRevisionDate: 13-Apr-2006; LatestRevisionNote: IPC-7351 Footprint Added.; DatasheetVersion: Rev 4, 1999; PackageVersion: rev4, Jul-2002; PackageReference: 840C; Publisher: Altium Limited; PackageDescription: 64-Pin Quad Flat Pack 0.8 mm Pitch; ComponentLink1Description: Manufacturer Link; ComponentLink1URL: http://www.freescale.com/; ComponentLink2Description: Datasheet; ComponentLink2URL: http://www.freescale.com/files/microcontrollers/doc/data_sheet/MC68HC05B6.pdf
footprint 840C_N (QFP, 64-Leads, Body 14x14mm, Pitch 0.8mm, IPC Medium Density)
footprint 840C_L (QFP, 64-Leads, Body 14x14mm, Pitch 0.8mm, IPC High Density)
footprint 840C_M (QFP, 64-Leads, Body 14x14mm, Pitch 0.8mm, IPC Low Density)
3D model MC68HC05-840C (64-Pin Quad Flat Pack 0.8 mm Pitch)
pins: 1 PC1 (io), 2 PC0 (io), 3 NC, 4 NC, 5 NC, 6 NC, 7 NC, 8 RDI (in), 9 SCLK (hiz), 10 TDO (hiz), 11 TCMP2 (out), 12 TCMP1 (out), 13 PD7/AN7 (in), 14 PD6/AN6 (in), 15 PD5/AN5 (in), 16 NC, 17 VRL (in), 18 VRH (in), 19 PD4/AN4 (in), 20 VDD (power), 21 PD3/AN3 (in), 22 PD2/AN2 (in), 23 PD1/AN1 (in), 24 PD0/AN0 (in), 25 NC, 26 NC, 27 NC, 28 OSC1, 29 OSC2, 30 ~{RESET} (io), 31 ~{IRQ} (in), 32 PLMA D/A (out), 33 PLMB D/A (out), 34 TCAP1 (in), 35 TCAP2 (in), 36 NC, 37 PA7 (io), 38 PA6 (io), 39 PA5 (io), 40 PA4 (io), 41 PA3 (io), 42 PA2 (io), 43 PA1 (io), 44 PA0 (io), 45 NC, 46 NC, 47 PB7 (io), 48 PB6 (io), 49 PB5 (io), 50 PB4 (io), 51 PB3 (io), 52 PB2 (io), 53 PB1 (io), 54 PB0 (io), 55 NC, 56 NC, 57 VPP1 (out), 58 VSS (power), 59 PC7 (io), 60 PC6 (io), 61 PC5 (io), 62 PC4 (io), 63 PC3 (io), 64 PC2/ECLK (io)

## MC68HC05B16B
designator U?
8-Bit Microcontroller; Published: 17-Jan-2003; LatestRevisionDate: 06-Jun-2005; LatestRevisionNote: Stylized 3D Model Added.; DatasheetVersion: Rev 4, 1999; PackageVersion: rev4, 1999; PackageReference: 859-01; Publisher: Altium Limited; PackageDescription: DIP; 56 Leads; Row Spacing 15.24 mm; Pitch 1.778 mm; ComponentLink1Description: Manufacturer Link; ComponentLink1URL: http://www.freescale.com/; ComponentLink2Description: Datasheet; ComponentLink2URL: http://www.freescale.com/files/microcontrollers/doc/data_sheet/MC68HC05B6.pdf
footprint 859-01 (DIP; 56 Leads; Row Spacing 15.24 mm; Pitch 1.778 mm)
3D model 859-01 (DIP; 56 Leads; Row Spacing 15.24 mm; Pitch 1.778 mm)
pins: 1 TCMP1 (out), 2 PD7 (in), 3 PD6 (in), 4 PD5 (in), 5 NC, 6 NC, 7 NC, 8 VRL (in), 9 VRH (in), 10 PD4 (in), 11 VDD (power), 12 PD3 (in), 13 PD2 (in), 14 PD1 (in), 15 PD0 (in), 16 NC, 17 OSC1, 18 OSC2, 19 ~{RESET} (io), 20 ~{IRQ} (in), 21 PLMA (out), 22 PLMB (out), 23 TCAP1 (in), 24 TCAP2 (in), 25 PA7 (io), 26 PA6 (io), 27 PA5 (io), 28 PA4 (io), 29 PA3 (io), 30 PA2 (io), 31 PA1 (io), 32 PA0 (io), 33 PB7 (io), 34 PB6 (io), 35 NC, 36 PB5 (io), 37 PB4 (io), 38 PB3 (io), 39 PB2 (io), 40 PB1 (io), 41 PB0 (io), 42 VPP1 (out), 43 VSS (power), 44 PC7 (io), 45 PC6 (io), 46 PC5 (io), 47 PC4 (io), 48 PC3 (io), 49 PC2 (io), 50 NC, 51 PC1 (io), 52 PC0 (io), 53 RDI (in), 54 SCLK (hiz), 55 TDO (hiz), 56 TCMP2 (out)

## MC68HC05B16CB
designator U?
8-Bit Microcontroller; Published: 17-Jan-2003; LatestRevisionDate: 06-Jun-2005; LatestRevisionNote: Stylized 3D Model Added.; DatasheetVersion: Rev 4, 1999; PackageVersion: rev4, 1999; PackageReference: 859-01; Publisher: Altium Limited; PackageDescription: DIP; 56 Leads; Row Spacing 15.24 mm; Pitch 1.778 mm; ComponentLink1Description: Manufacturer Link; ComponentLink1URL: http://www.freescale.com/; ComponentLink2Description: Datasheet; ComponentLink2URL: http://www.freescale.com/files/microcontrollers/doc/data_sheet/MC68HC05B6.pdf
footprint 859-01 (DIP; 56 Leads; Row Spacing 15.24 mm; Pitch 1.778 mm)
3D model 859-01 (DIP; 56 Leads; Row Spacing 15.24 mm; Pitch 1.778 mm)
pins: 1 TCMP1 (out), 2 PD7 (in), 3 PD6 (in), 4 PD5 (in), 5 NC, 6 NC, 7 NC, 8 VRL (in), 9 VRH (in), 10 PD4 (in), 11 VDD (power), 12 PD3 (in), 13 PD2 (in), 14 PD1 (in), 15 PD0 (in), 16 NC, 17 OSC1, 18 OSC2, 19 ~{RESET} (io), 20 ~{IRQ} (in), 21 PLMA (out), 22 PLMB (out), 23 TCAP1 (in), 24 TCAP2 (in), 25 PA7 (io), 26 PA6 (io), 27 PA5 (io), 28 PA4 (io), 29 PA3 (io), 30 PA2 (io), 31 PA1 (io), 32 PA0 (io), 33 PB7 (io), 34 PB6 (io), 35 NC, 36 PB5 (io), 37 PB4 (io), 38 PB3 (io), 39 PB2 (io), 40 PB1 (io), 41 PB0 (io), 42 VPP1 (out), 43 VSS (power), 44 PC7 (io), 45 PC6 (io), 46 PC5 (io), 47 PC4 (io), 48 PC3 (io), 49 PC2 (io), 50 NC, 51 PC1 (io), 52 PC0 (io), 53 RDI (in), 54 SCLK (hiz), 55 TDO (hiz), 56 TCMP2 (out)

## MC68HC05B16CFN
designator U?
8-Bit Microcontroller; Published: 17-Jan-2003; LatestRevisionDate: 13-Apr-2006; LatestRevisionNote: IPC-7351 Footprint Added.; DatasheetVersion: Rev 4, 1999; PackageVersion: rev3, 1997; PackageReference: 778-02; Publisher: Altium Limited; PackageDescription: 52-Pin Plastic Leaded Chip Carrier 1.27 mm Pitch; ComponentLink1Description: Manufacturer Link; ComponentLink1URL: http://www.freescale.com/; ComponentLink2Description: Datasheet; ComponentLink2URL: http://www.freescale.com/files/microcontrollers/doc/data_sheet/MC68HC05B6.pdf
footprint 778-02_N (Leaded Chip Carrier, 52-Leads, Body 19x19mm, Pitch 1.27mm, IPC Medium Density)
footprint 778-02_L (Leaded Chip Carrier, 52-Leads, Body 19x19mm, Pitch 1.27mm, IPC High Density)
footprint 778-02_M (Leaded Chip Carrier, 52-Leads, Body 19x19mm, Pitch 1.27mm, IPC Low Density)
3D model MC68HC05-778-02 (52-Pin Plastic Leaded Chip Carrier 1.27 mm Pitch)
pins: 1 TCMP2 (out), 2 TCMP1 (out), 3 PD7/AN7 (in), 4 PD6/AN6 (in), 5 PD5/AN5 (in), 6 NC, 7 VRL (in), 8 VRH (in), 9 PD4/AN4 (in), 10 VDD (power), 11 PD3/AN3 (in), 12 PD2/AN2 (in), 13 PD1/AN1 (in), 14 PD0/AN0 (in), 15 NC, 16 OSC1, 17 OSC2, 18 ~{RESET} (io), 19 ~{IRQ} (in), 20 PLMA (out), 21 PLMB (out), 22 TCAP1 (in), 23 TCAP2 (in), 24 PA7 (io), 25 PA6 (io), 26 PA5 (io), 27 PA4 (io), 28 PA3 (io), 29 PA2 (io), 30 PA1 (io), 31 PA0 (io), 32 PB7 (io), 33 PB6 (io), 34 PB5 (io), 35 PB4 (io), 36 PB3 (io), 37 PB2 (io), 38 PB1 (io), 39 PB0 (io), 40 VPP1 (out), 41 VSS (power), 42 PC7 (io), 43 PC6 (io), 44 PC5 (io), 45 PC4 (io), 46 PC3 (io), 47 PC2/ECLK (io), 48 PC1 (io), 49 PC0 (io), 50 RDI (in), 51 SCLK (hiz), 52 TDO (hiz)

## MC68HC05B16CFU
designator U?
8-Bit Microcontroller; Published: 17-Jan-2003; LatestRevisionDate: 13-Apr-2006; LatestRevisionNote: IPC-7351 Footprint Added.; DatasheetVersion: Rev 4, 1999; PackageVersion: rev4, Jul-2002; PackageReference: 840C; Publisher: Altium Limited; PackageDescription: 64-Pin Quad Flat Pack 0.8 mm Pitch; ComponentLink1Description: Manufacturer Link; ComponentLink1URL: http://www.freescale.com/; ComponentLink2Description: Datasheet; ComponentLink2URL: http://www.freescale.com/files/microcontrollers/doc/data_sheet/MC68HC05B6.pdf
footprint 840C_N (QFP, 64-Leads, Body 14x14mm, Pitch 0.8mm, IPC Medium Density)
footprint 840C_L (QFP, 64-Leads, Body 14x14mm, Pitch 0.8mm, IPC High Density)
footprint 840C_M (QFP, 64-Leads, Body 14x14mm, Pitch 0.8mm, IPC Low Density)
3D model MC68HC05-840C (64-Pin Quad Flat Pack 0.8 mm Pitch)
pins: 1 PC1 (io), 2 PC0 (io), 3 NC, 4 NC, 5 NC, 6 NC, 7 NC, 8 RDI (in), 9 SCLK (hiz), 10 TDO (hiz), 11 TCMP2 (out), 12 TCMP1 (out), 13 PD7/AN7 (in), 14 PD6/AN6 (in), 15 PD5/AN5 (in), 16 NC, 17 VRL (in), 18 VRH (in), 19 PD4/AN4 (in), 20 VDD (power), 21 PD3/AN3 (in), 22 PD2/AN2 (in), 23 PD1/AN1 (in), 24 PD0/AN0 (in), 25 NC, 26 NC, 27 NC, 28 OSC1, 29 OSC2, 30 ~{RESET} (io), 31 ~{IRQ} (in), 32 PLMA D/A (out), 33 PLMB D/A (out), 34 TCAP1 (in), 35 TCAP2 (in), 36 NC, 37 PA7 (io), 38 PA6 (io), 39 PA5 (io), 40 PA4 (io), 41 PA3 (io), 42 PA2 (io), 43 PA1 (io), 44 PA0 (io), 45 NC, 46 NC, 47 PB7 (io), 48 PB6 (io), 49 PB5 (io), 50 PB4 (io), 51 PB3 (io), 52 PB2 (io), 53 PB1 (io), 54 PB0 (io), 55 NC, 56 NC, 57 VPP1 (out), 58 VSS (power), 59 PC7 (io), 60 PC6 (io), 61 PC5 (io), 62 PC4 (io), 63 PC3 (io), 64 PC2/ECLK (io)

## MC68HC05B16FN
designator U?
8-Bit Microcontroller; Published: 17-Jan-2003; LatestRevisionDate: 13-Apr-2006; LatestRevisionNote: IPC-7351 Footprint Added.; DatasheetVersion: Rev 4, 1999; PackageVersion: rev3, 1997; PackageReference: 778-02; Publisher: Altium Limited; PackageDescription: 52-Pin Plastic Leaded Chip Carrier 1.27 mm Pitch; ComponentLink1Description: Manufacturer Link; ComponentLink1URL: http://www.freescale.com/; ComponentLink2Description: Datasheet; ComponentLink2URL: http://www.freescale.com/files/microcontrollers/doc/data_sheet/MC68HC05B6.pdf
footprint 778-02_N (Leaded Chip Carrier, 52-Leads, Body 19x19mm, Pitch 1.27mm, IPC Medium Density)
footprint 778-02_L (Leaded Chip Carrier, 52-Leads, Body 19x19mm, Pitch 1.27mm, IPC High Density)
footprint 778-02_M (Leaded Chip Carrier, 52-Leads, Body 19x19mm, Pitch 1.27mm, IPC Low Density)
3D model MC68HC05-778-02 (52-Pin Plastic Leaded Chip Carrier 1.27 mm Pitch)
pins: 1 TCMP2 (out), 2 TCMP1 (out), 3 PD7/AN7 (in), 4 PD6/AN6 (in), 5 PD5/AN5 (in), 6 NC, 7 VRL (in), 8 VRH (in), 9 PD4/AN4 (in), 10 VDD (power), 11 PD3/AN3 (in), 12 PD2/AN2 (in), 13 PD1/AN1 (in), 14 PD0/AN0 (in), 15 NC, 16 OSC1, 17 OSC2, 18 ~{RESET} (io), 19 ~{IRQ} (in), 20 PLMA (out), 21 PLMB (out), 22 TCAP1 (in), 23 TCAP2 (in), 24 PA7 (io), 25 PA6 (io), 26 PA5 (io), 27 PA4 (io), 28 PA3 (io), 29 PA2 (io), 30 PA1 (io), 31 PA0 (io), 32 PB7 (io), 33 PB6 (io), 34 PB5 (io), 35 PB4 (io), 36 PB3 (io), 37 PB2 (io), 38 PB1 (io), 39 PB0 (io), 40 VPP1 (out), 41 VSS (power), 42 PC7 (io), 43 PC6 (io), 44 PC5 (io), 45 PC4 (io), 46 PC3 (io), 47 PC2/ECLK (io), 48 PC1 (io), 49 PC0 (io), 50 RDI (in), 51 SCLK (hiz), 52 TDO (hiz)

## MC68HC05B16FU
designator U?
8-Bit Microcontroller; Published: 17-Jan-2003; LatestRevisionDate: 13-Apr-2006; LatestRevisionNote: IPC-7351 Footprint Added.; DatasheetVersion: Rev 4, 1999; PackageVersion: rev4, Jul-2002; PackageReference: 840C; Publisher: Altium Limited; PackageDescription: 64-Pin Quad Flat Pack 0.8 mm Pitch; ComponentLink1Description: Manufacturer Link; ComponentLink1URL: http://www.freescale.com/; ComponentLink2Description: Datasheet; ComponentLink2URL: http://www.freescale.com/files/microcontrollers/doc/data_sheet/MC68HC05B6.pdf
footprint 840C_N (QFP, 64-Leads, Body 14x14mm, Pitch 0.8mm, IPC Medium Density)
footprint 840C_L (QFP, 64-Leads, Body 14x14mm, Pitch 0.8mm, IPC High Density)
footprint 840C_M (QFP, 64-Leads, Body 14x14mm, Pitch 0.8mm, IPC Low Density)
3D model MC68HC05-840C (64-Pin Quad Flat Pack 0.8 mm Pitch)
pins: 1 PC1 (io), 2 PC0 (io), 3 NC, 4 NC, 5 NC, 6 NC, 7 NC, 8 RDI (in), 9 SCLK (hiz), 10 TDO (hiz), 11 TCMP2 (out), 12 TCMP1 (out), 13 PD7/AN7 (in), 14 PD6/AN6 (in), 15 PD5/AN5 (in), 16 NC, 17 VRL (in), 18 VRH (in), 19 PD4/AN4 (in), 20 VDD (power), 21 PD3/AN3 (in), 22 PD2/AN2 (in), 23 PD1/AN1 (in), 24 PD0/AN0 (in), 25 NC, 26 NC, 27 NC, 28 OSC1, 29 OSC2, 30 ~{RESET} (io), 31 ~{IRQ} (in), 32 PLMA D/A (out), 33 PLMB D/A (out), 34 TCAP1 (in), 35 TCAP2 (in), 36 NC, 37 PA7 (io), 38 PA6 (io), 39 PA5 (io), 40 PA4 (io), 41 PA3 (io), 42 PA2 (io), 43 PA1 (io), 44 PA0 (io), 45 NC, 46 NC, 47 PB7 (io), 48 PB6 (io), 49 PB5 (io), 50 PB4 (io), 51 PB3 (io), 52 PB2 (io), 53 PB1 (io), 54 PB0 (io), 55 NC, 56 NC, 57 VPP1 (out), 58 VSS (power), 59 PC7 (io), 60 PC6 (io), 61 PC5 (io), 62 PC4 (io), 63 PC3 (io), 64 PC2/ECLK (io)

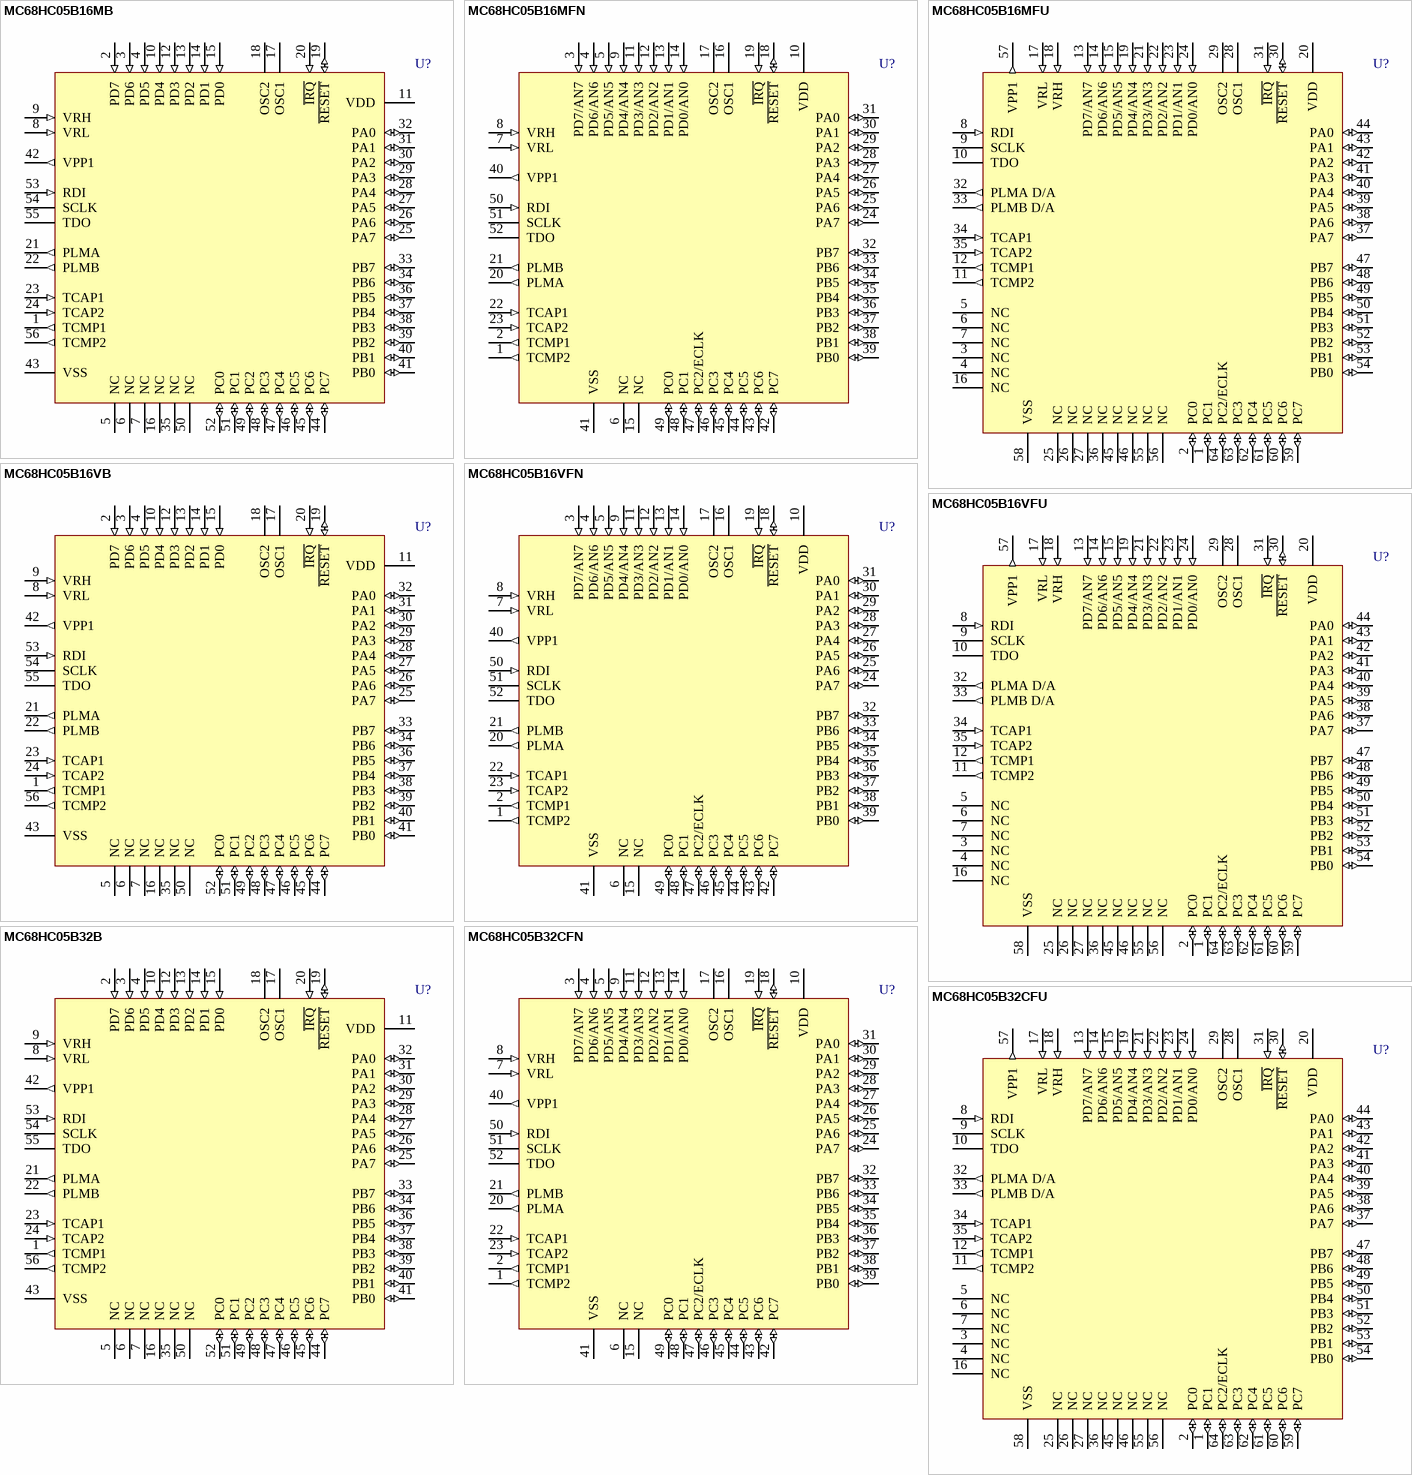
[diagram p6: symbols MC68HC05B16MB to MC68HC05B32CFU]

## MC68HC05B16MB
designator U?
8-Bit Microcontroller; Published: 17-Jan-2003; LatestRevisionDate: 06-Jun-2005; LatestRevisionNote: Stylized 3D Model Added.; DatasheetVersion: Rev 4, 1999; PackageVersion: rev4, 1999; PackageReference: 859-01; Publisher: Altium Limited; PackageDescription: DIP; 56 Leads; Row Spacing 15.24 mm; Pitch 1.778 mm; ComponentLink1Description: Manufacturer Link; ComponentLink1URL: http://www.freescale.com/; ComponentLink2Description: Datasheet; ComponentLink2URL: http://www.freescale.com/files/microcontrollers/doc/data_sheet/MC68HC05B6.pdf
footprint 859-01 (DIP; 56 Leads; Row Spacing 15.24 mm; Pitch 1.778 mm)
3D model 859-01 (DIP; 56 Leads; Row Spacing 15.24 mm; Pitch 1.778 mm)
pins: 1 TCMP1 (out), 2 PD7 (in), 3 PD6 (in), 4 PD5 (in), 5 NC, 6 NC, 7 NC, 8 VRL (in), 9 VRH (in), 10 PD4 (in), 11 VDD (power), 12 PD3 (in), 13 PD2 (in), 14 PD1 (in), 15 PD0 (in), 16 NC, 17 OSC1, 18 OSC2, 19 ~{RESET} (io), 20 ~{IRQ} (in), 21 PLMA (out), 22 PLMB (out), 23 TCAP1 (in), 24 TCAP2 (in), 25 PA7 (io), 26 PA6 (io), 27 PA5 (io), 28 PA4 (io), 29 PA3 (io), 30 PA2 (io), 31 PA1 (io), 32 PA0 (io), 33 PB7 (io), 34 PB6 (io), 35 NC, 36 PB5 (io), 37 PB4 (io), 38 PB3 (io), 39 PB2 (io), 40 PB1 (io), 41 PB0 (io), 42 VPP1 (out), 43 VSS (power), 44 PC7 (io), 45 PC6 (io), 46 PC5 (io), 47 PC4 (io), 48 PC3 (io), 49 PC2 (io), 50 NC, 51 PC1 (io), 52 PC0 (io), 53 RDI (in), 54 SCLK (hiz), 55 TDO (hiz), 56 TCMP2 (out)

## MC68HC05B16MFN
designator U?
8-Bit Microcontroller; Published: 17-Jan-2003; LatestRevisionDate: 13-Apr-2006; LatestRevisionNote: IPC-7351 Footprint Added.; DatasheetVersion: Rev 4, 1999; PackageVersion: rev3, 1997; PackageReference: 778-02; Publisher: Altium Limited; PackageDescription: 52-Pin Plastic Leaded Chip Carrier 1.27 mm Pitch; ComponentLink1Description: Manufacturer Link; ComponentLink1URL: http://www.freescale.com/; ComponentLink2Description: Datasheet; ComponentLink2URL: http://www.freescale.com/files/microcontrollers/doc/data_sheet/MC68HC05B6.pdf
footprint 778-02_N (Leaded Chip Carrier, 52-Leads, Body 19x19mm, Pitch 1.27mm, IPC Medium Density)
footprint 778-02_L (Leaded Chip Carrier, 52-Leads, Body 19x19mm, Pitch 1.27mm, IPC High Density)
footprint 778-02_M (Leaded Chip Carrier, 52-Leads, Body 19x19mm, Pitch 1.27mm, IPC Low Density)
3D model MC68HC05-778-02 (52-Pin Plastic Leaded Chip Carrier 1.27 mm Pitch)
pins: 1 TCMP2 (out), 2 TCMP1 (out), 3 PD7/AN7 (in), 4 PD6/AN6 (in), 5 PD5/AN5 (in), 6 NC, 7 VRL (in), 8 VRH (in), 9 PD4/AN4 (in), 10 VDD (power), 11 PD3/AN3 (in), 12 PD2/AN2 (in), 13 PD1/AN1 (in), 14 PD0/AN0 (in), 15 NC, 16 OSC1, 17 OSC2, 18 ~{RESET} (io), 19 ~{IRQ} (in), 20 PLMA (out), 21 PLMB (out), 22 TCAP1 (in), 23 TCAP2 (in), 24 PA7 (io), 25 PA6 (io), 26 PA5 (io), 27 PA4 (io), 28 PA3 (io), 29 PA2 (io), 30 PA1 (io), 31 PA0 (io), 32 PB7 (io), 33 PB6 (io), 34 PB5 (io), 35 PB4 (io), 36 PB3 (io), 37 PB2 (io), 38 PB1 (io), 39 PB0 (io), 40 VPP1 (out), 41 VSS (power), 42 PC7 (io), 43 PC6 (io), 44 PC5 (io), 45 PC4 (io), 46 PC3 (io), 47 PC2/ECLK (io), 48 PC1 (io), 49 PC0 (io), 50 RDI (in), 51 SCLK (hiz), 52 TDO (hiz)

## MC68HC05B16MFU
designator U?
8-Bit Microcontroller; Published: 17-Jan-2003; LatestRevisionDate: 13-Apr-2006; LatestRevisionNote: IPC-7351 Footprint Added.; DatasheetVersion: Rev 4, 1999; PackageVersion: rev4, Jul-2002; PackageReference: 840C; Publisher: Altium Limited; PackageDescription: 64-Pin Quad Flat Pack 0.8 mm Pitch; ComponentLink1Description: Manufacturer Link; ComponentLink1URL: http://www.freescale.com/; ComponentLink2Description: Datasheet; ComponentLink2URL: http://www.freescale.com/files/microcontrollers/doc/data_sheet/MC68HC05B6.pdf
footprint 840C_N (QFP, 64-Leads, Body 14x14mm, Pitch 0.8mm, IPC Medium Density)
footprint 840C_L (QFP, 64-Leads, Body 14x14mm, Pitch 0.8mm, IPC High Density)
footprint 840C_M (QFP, 64-Leads, Body 14x14mm, Pitch 0.8mm, IPC Low Density)
3D model MC68HC05-840C (64-Pin Quad Flat Pack 0.8 mm Pitch)
pins: 1 PC1 (io), 2 PC0 (io), 3 NC, 4 NC, 5 NC, 6 NC, 7 NC, 8 RDI (in), 9 SCLK (hiz), 10 TDO (hiz), 11 TCMP2 (out), 12 TCMP1 (out), 13 PD7/AN7 (in), 14 PD6/AN6 (in), 15 PD5/AN5 (in), 16 NC, 17 VRL (in), 18 VRH (in), 19 PD4/AN4 (in), 20 VDD (power), 21 PD3/AN3 (in), 22 PD2/AN2 (in), 23 PD1/AN1 (in), 24 PD0/AN0 (in), 25 NC, 26 NC, 27 NC, 28 OSC1, 29 OSC2, 30 ~{RESET} (io), 31 ~{IRQ} (in), 32 PLMA D/A (out), 33 PLMB D/A (out), 34 TCAP1 (in), 35 TCAP2 (in), 36 NC, 37 PA7 (io), 38 PA6 (io), 39 PA5 (io), 40 PA4 (io), 41 PA3 (io), 42 PA2 (io), 43 PA1 (io), 44 PA0 (io), 45 NC, 46 NC, 47 PB7 (io), 48 PB6 (io), 49 PB5 (io), 50 PB4 (io), 51 PB3 (io), 52 PB2 (io), 53 PB1 (io), 54 PB0 (io), 55 NC, 56 NC, 57 VPP1 (out), 58 VSS (power), 59 PC7 (io), 60 PC6 (io), 61 PC5 (io), 62 PC4 (io), 63 PC3 (io), 64 PC2/ECLK (io)

## MC68HC05B16VB
designator U?
8-Bit Microcontroller; Published: 17-Jan-2003; LatestRevisionDate: 06-Jun-2005; LatestRevisionNote: Stylized 3D Model Added.; DatasheetVersion: Rev 4, 1999; PackageVersion: rev4, 1999; PackageReference: 859-01; Publisher: Altium Limited; PackageDescription: DIP; 56 Leads; Row Spacing 15.24 mm; Pitch 1.778 mm; ComponentLink1Description: Manufacturer Link; ComponentLink1URL: http://www.freescale.com/; ComponentLink2Description: Datasheet; ComponentLink2URL: http://www.freescale.com/files/microcontrollers/doc/data_sheet/MC68HC05B6.pdf
footprint 859-01 (DIP; 56 Leads; Row Spacing 15.24 mm; Pitch 1.778 mm)
3D model 859-01 (DIP; 56 Leads; Row Spacing 15.24 mm; Pitch 1.778 mm)
pins: 1 TCMP1 (out), 2 PD7 (in), 3 PD6 (in), 4 PD5 (in), 5 NC, 6 NC, 7 NC, 8 VRL (in), 9 VRH (in), 10 PD4 (in), 11 VDD (power), 12 PD3 (in), 13 PD2 (in), 14 PD1 (in), 15 PD0 (in), 16 NC, 17 OSC1, 18 OSC2, 19 ~{RESET} (io), 20 ~{IRQ} (in), 21 PLMA (out), 22 PLMB (out), 23 TCAP1 (in), 24 TCAP2 (in), 25 PA7 (io), 26 PA6 (io), 27 PA5 (io), 28 PA4 (io), 29 PA3 (io), 30 PA2 (io), 31 PA1 (io), 32 PA0 (io), 33 PB7 (io), 34 PB6 (io), 35 NC, 36 PB5 (io), 37 PB4 (io), 38 PB3 (io), 39 PB2 (io), 40 PB1 (io), 41 PB0 (io), 42 VPP1 (out), 43 VSS (power), 44 PC7 (io), 45 PC6 (io), 46 PC5 (io), 47 PC4 (io), 48 PC3 (io), 49 PC2 (io), 50 NC, 51 PC1 (io), 52 PC0 (io), 53 RDI (in), 54 SCLK (hiz), 55 TDO (hiz), 56 TCMP2 (out)

## MC68HC05B16VFN
designator U?
8-Bit Microcontroller; Published: 17-Jan-2003; LatestRevisionDate: 13-Apr-2006; LatestRevisionNote: IPC-7351 Footprint Added.; DatasheetVersion: Rev 4, 1999; PackageVersion: rev3, 1997; PackageReference: 778-02; Publisher: Altium Limited; PackageDescription: 52-Pin Plastic Leaded Chip Carrier 1.27 mm Pitch; ComponentLink1Description: Manufacturer Link; ComponentLink1URL: http://www.freescale.com/; ComponentLink2Description: Datasheet; ComponentLink2URL: http://www.freescale.com/files/microcontrollers/doc/data_sheet/MC68HC05B6.pdf
footprint 778-02_N (Leaded Chip Carrier, 52-Leads, Body 19x19mm, Pitch 1.27mm, IPC Medium Density)
footprint 778-02_L (Leaded Chip Carrier, 52-Leads, Body 19x19mm, Pitch 1.27mm, IPC High Density)
footprint 778-02_M (Leaded Chip Carrier, 52-Leads, Body 19x19mm, Pitch 1.27mm, IPC Low Density)
3D model MC68HC05-778-02 (52-Pin Plastic Leaded Chip Carrier 1.27 mm Pitch)
pins: 1 TCMP2 (out), 2 TCMP1 (out), 3 PD7/AN7 (in), 4 PD6/AN6 (in), 5 PD5/AN5 (in), 6 NC, 7 VRL (in), 8 VRH (in), 9 PD4/AN4 (in), 10 VDD (power), 11 PD3/AN3 (in), 12 PD2/AN2 (in), 13 PD1/AN1 (in), 14 PD0/AN0 (in), 15 NC, 16 OSC1, 17 OSC2, 18 ~{RESET} (io), 19 ~{IRQ} (in), 20 PLMA (out), 21 PLMB (out), 22 TCAP1 (in), 23 TCAP2 (in), 24 PA7 (io), 25 PA6 (io), 26 PA5 (io), 27 PA4 (io), 28 PA3 (io), 29 PA2 (io), 30 PA1 (io), 31 PA0 (io), 32 PB7 (io), 33 PB6 (io), 34 PB5 (io), 35 PB4 (io), 36 PB3 (io), 37 PB2 (io), 38 PB1 (io), 39 PB0 (io), 40 VPP1 (out), 41 VSS (power), 42 PC7 (io), 43 PC6 (io), 44 PC5 (io), 45 PC4 (io), 46 PC3 (io), 47 PC2/ECLK (io), 48 PC1 (io), 49 PC0 (io), 50 RDI (in), 51 SCLK (hiz), 52 TDO (hiz)